# Altium schematic symbol library kmilo17pet-PIC32MX.SchLib: 556 symbols (part 11 of 38)
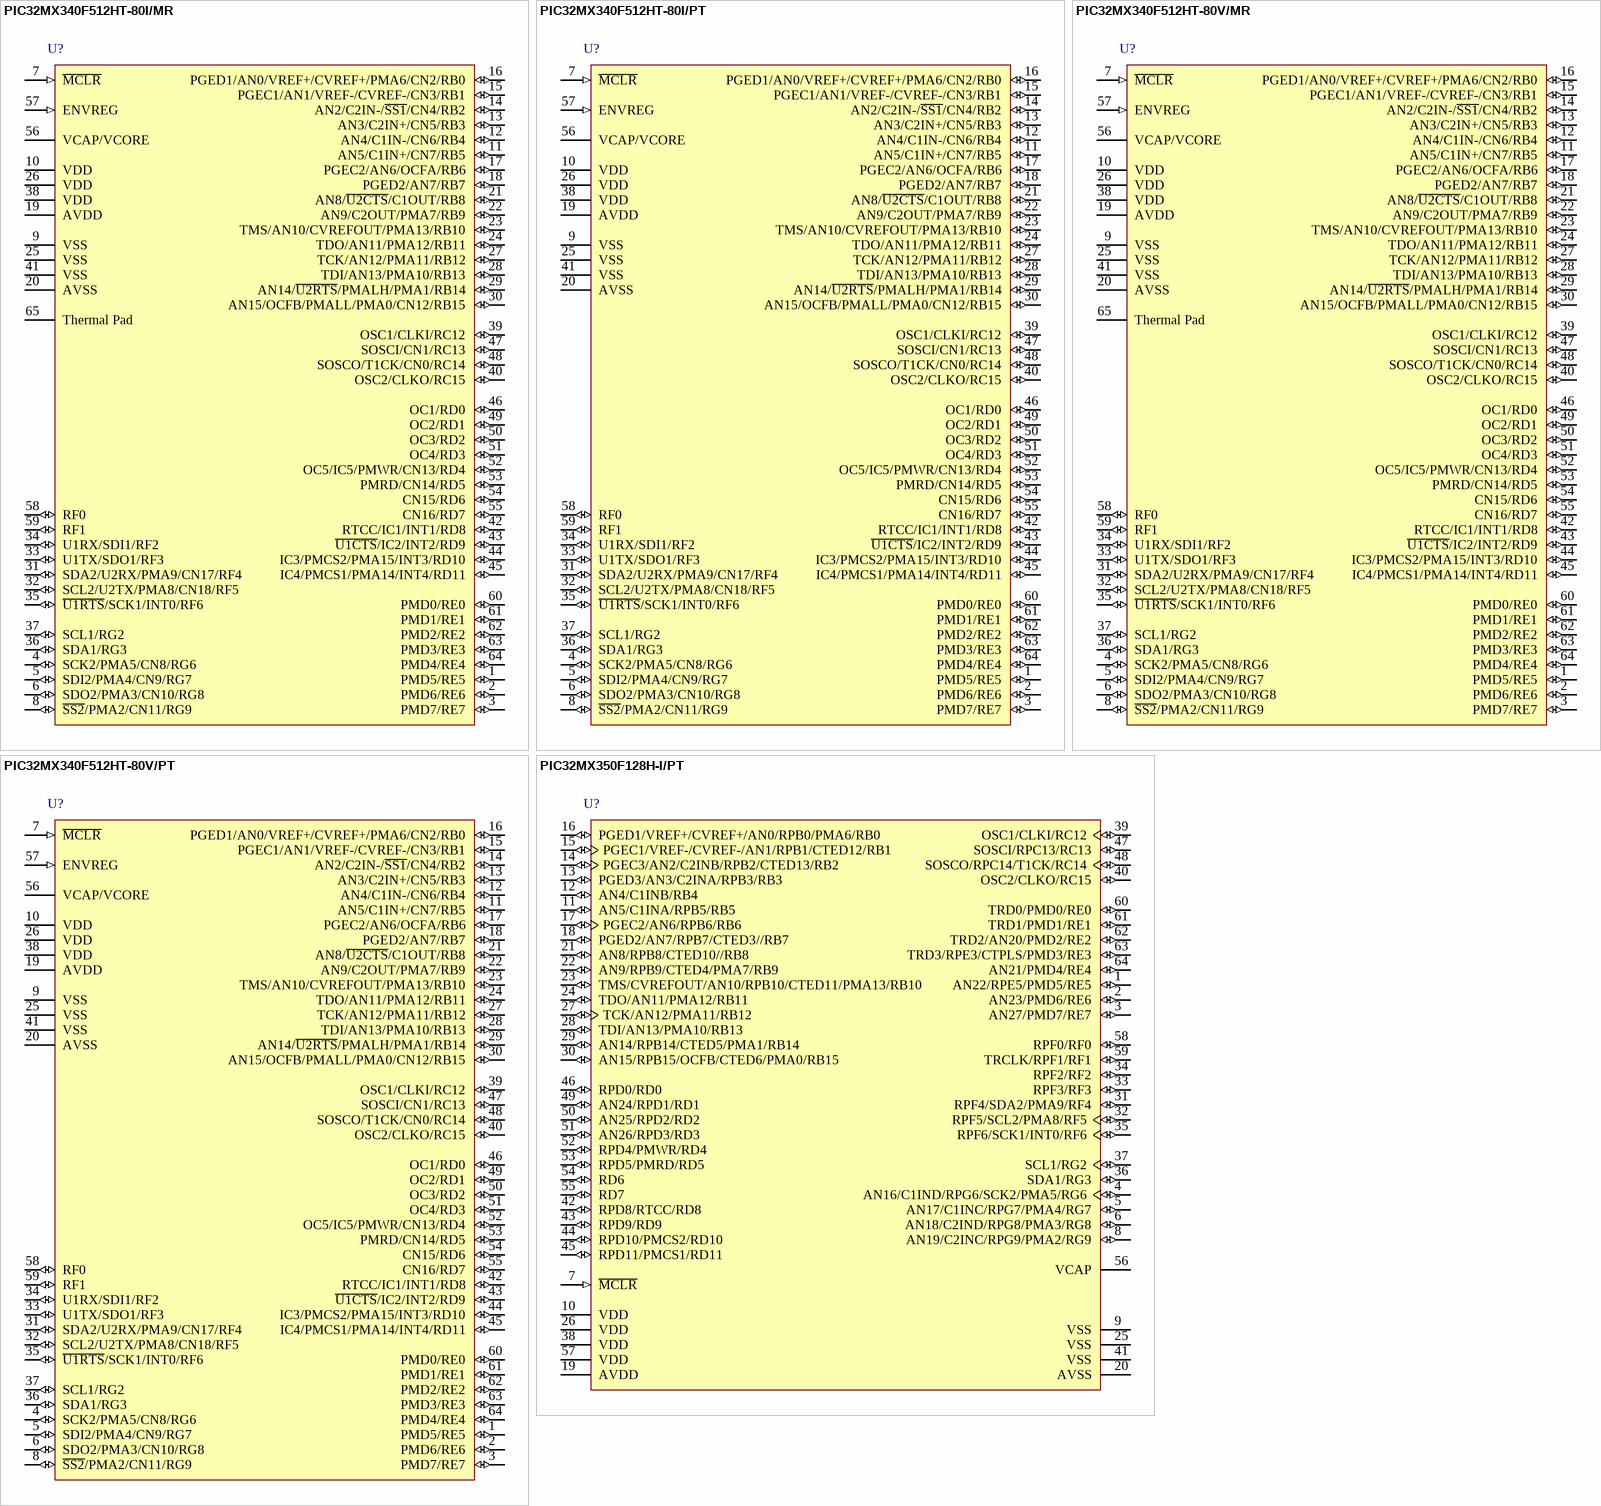
[diagram p202: symbols PIC32MX340F512HT-80I/MR to PIC32MX350F128H-I/PT]

## PIC32MX340F512HT-80V/MR
designator U?
High Performance 80 MHz MIPS-Based 32-Bit Flash Microcontroller, 512KB Program Memory, 64-pin QFN, V-Temperature, Tape and Reel; Manufacturer: Microchip; PartNumber: PIC32MX340F512HT-80V/MR; DatasheetVersion: revH, May-2011; PackageVersion: revBB, Aug-2009; PackageReference: QFN-MR64; PackageDescription: 64-Lead Plastic Quad Flat, No Lead Package (MR) - 9x9x0.9 mm Body [QFN]; Supplier 1: Digi-Key; Supplier Part Number 1: PIC32MX340F512HT-80V/MR-ND; Mounting Technology: Surface Mount; ComponentLink1Description: Manufacturer URL; ComponentLink1URL: http://www.microchip.com/; ComponentLink2Description: Datasheet; ComponentLink2URL: http://ww1.microchip.com/downloads/en/DeviceDoc/61143H.pdf; ComponentLink3Description: Package Specification; ComponentLink3URL: http://ww1.microchip.com/downloads/en/PackagingSpec/en012702.pdf
footprint QFN-MR64_N (QFN, 64-Leads, Body 9x9mm, Pitch 0.5mm, Thermal Pad 7.5x7.5mm, IPC Medium Density)
footprint QFN-MR64_L (QFN, 64-Leads, Body 9x9mm, Pitch 0.5mm, Thermal Pad 7.5x7.5mm, IPC High Density)
footprint QFN-MR64_M (QFN, 64-Leads, Body 9x9mm, Pitch 0.5mm, Thermal Pad 7.5x7.5mm, IPC Low Density)
pins: 1 PMD5/RE5 (io), 2 PMD6/RE6 (io), 3 PMD7/RE7 (io), 4 SCK2/PMA5/CN8/RG6 (io), 5 SDI2/PMA4/CN9/RG7 (io), 6 SDO2/PMA3/CN10/RG8 (io), 7 ~{MCLR} (in), 8 ~{SS2}/PMA2/CN11/RG9 (io), 9 VSS (power), 10 VDD (power), 11 AN5/C1IN+/CN7/RB5 (io), 12 AN4/C1IN-/CN6/RB4 (io), 13 AN3/C2IN+/CN5/RB3 (io), 14 AN2/C2IN-/~{SS1}/CN4/RB2 (io), 15 PGEC1/AN1/VREF-/CVREF-/CN3/RB1 (io), 16 PGED1/AN0/VREF+/CVREF+/PMA6/CN2/RB0 (io), 17 PGEC2/AN6/OCFA/RB6 (io), 18 PGED2/AN7/RB7 (io), 19 AVDD (power), 20 AVSS (power), 21 AN8/~{U2CTS}/C1OUT/RB8 (io), 22 AN9/C2OUT/PMA7/RB9 (io), 23 TMS/AN10/CVREFOUT/PMA13/RB10 (io), 24 TDO/AN11/PMA12/RB11 (io), 25 VSS (power), 26 VDD (power), 27 TCK/AN12/PMA11/RB12 (io), 28 TDI/AN13/PMA10/RB13 (io), 29 AN14/~{U2RTS}/PMALH/PMA1/RB14 (io), 30 AN15/OCFB/PMALL/PMA0/CN12/RB15 (io), 31 SDA2/U2RX/PMA9/CN17/RF4 (io), 32 SCL2/U2TX/PMA8/CN18/RF5 (io), 33 U1TX/SDO1/RF3 (io), 34 U1RX/SDI1/RF2 (io), 35 ~{U1RTS}/SCK1/INT0/RF6 (io), 36 SDA1/RG3 (io), 37 SCL1/RG2 (io), 38 VDD (power), 39 OSC1/CLKI/RC12 (io), 40 OSC2/CLKO/RC15 (io), 41 VSS (power), 42 RTCC/IC1/INT1/RD8 (io), 43 ~{U1CTS}/IC2/INT2/RD9 (io), 44 IC3/PMCS2/PMA15/INT3/RD10 (io), 45 IC4/PMCS1/PMA14/INT4/RD11 (io), 46 OC1/RD0 (io), 47 SOSCI/CN1/RC13 (io), 48 SOSCO/T1CK/CN0/RC14 (io), 49 OC2/RD1 (io), 50 OC3/RD2 (io), 51 OC4/RD3 (io), 52 OC5/IC5/PMWR/CN13/RD4 (io), 53 PMRD/CN14/RD5 (io), 54 CN15/RD6 (io), 55 CN16/RD7 (io), 56 VCAP/VCORE (power), 57 ENVREG (in), 58 RF0 (io), 59 RF1 (io), 60 PMD0/RE0 (io), 61 PMD1/RE1 (io), 62 PMD2/RE2 (io), 63 PMD3/RE3 (io), 64 PMD4/RE4 (io), 65 Thermal Pad

## PIC32MX340F512HT-80V/PT
designator U?
High Performance 80 MHz MIPS-Based 32-Bit Flash Microcontroller, 512KB Program Memory, 64-pin TQFP, V-Temperature, Tape and Reel; Manufacturer: Microchip; PartNumber: PIC32MX340F512HT-80V/PT; DatasheetVersion: revH, May-2011; PackageVersion: revBB, Aug-2009; PackageReference: TQFP-PT64; PackageDescription: 64-Lead Thin Plastic Quad Flat Pack (PT) - 10x10x1mm Body, 2.00mm [TQFP]; Supplier 1: Digi-Key; Supplier Part Number 1: PIC32MX340F512HT-80V/PT-ND; Mounting Technology: Surface Mount; Code_JEDEC: MS-026; ComponentLink1Description: Manufacturer URL; ComponentLink1URL: http://www.microchip.com/; ComponentLink2Description: Datasheet; ComponentLink2URL: http://ww1.microchip.com/downloads/en/DeviceDoc/61143H.pdf; ComponentLink3Description: Package Specification; ComponentLink3URL: http://ww1.microchip.com/downloads/en/PackagingSpec/en012702.pdf
footprint TQFP-PT64_N (Thin QFP, 64-Leads, Body 10x10mm, Pitch 0.5mm, IPC Medium Density)
footprint TQFP-PT64_L (Thin QFP, 64-Leads, Body 10x10mm, Pitch 0.5mm, IPC High Density)
footprint TQFP-PT64_M (Thin QFP, 64-Leads, Body 10x10mm, Pitch 0.5mm, IPC Low Density)
pins: 1 PMD5/RE5 (io), 2 PMD6/RE6 (io), 3 PMD7/RE7 (io), 4 SCK2/PMA5/CN8/RG6 (io), 5 SDI2/PMA4/CN9/RG7 (io), 6 SDO2/PMA3/CN10/RG8 (io), 7 ~{MCLR} (in), 8 ~{SS2}/PMA2/CN11/RG9 (io), 9 VSS (power), 10 VDD (power), 11 AN5/C1IN+/CN7/RB5 (io), 12 AN4/C1IN-/CN6/RB4 (io), 13 AN3/C2IN+/CN5/RB3 (io), 14 AN2/C2IN-/~{SS1}/CN4/RB2 (io), 15 PGEC1/AN1/VREF-/CVREF-/CN3/RB1 (io), 16 PGED1/AN0/VREF+/CVREF+/PMA6/CN2/RB0 (io), 17 PGEC2/AN6/OCFA/RB6 (io), 18 PGED2/AN7/RB7 (io), 19 AVDD (power), 20 AVSS (power), 21 AN8/~{U2CTS}/C1OUT/RB8 (io), 22 AN9/C2OUT/PMA7/RB9 (io), 23 TMS/AN10/CVREFOUT/PMA13/RB10 (io), 24 TDO/AN11/PMA12/RB11 (io), 25 VSS (power), 26 VDD (power), 27 TCK/AN12/PMA11/RB12 (io), 28 TDI/AN13/PMA10/RB13 (io), 29 AN14/~{U2RTS}/PMALH/PMA1/RB14 (io), 30 AN15/OCFB/PMALL/PMA0/CN12/RB15 (io), 31 SDA2/U2RX/PMA9/CN17/RF4 (io), 32 SCL2/U2TX/PMA8/CN18/RF5 (io), 33 U1TX/SDO1/RF3 (io), 34 U1RX/SDI1/RF2 (io), 35 ~{U1RTS}/SCK1/INT0/RF6 (io), 36 SDA1/RG3 (io), 37 SCL1/RG2 (io), 38 VDD (power), 39 OSC1/CLKI/RC12 (io), 40 OSC2/CLKO/RC15 (io), 41 VSS (power), 42 RTCC/IC1/INT1/RD8 (io), 43 ~{U1CTS}/IC2/INT2/RD9 (io), 44 IC3/PMCS2/PMA15/INT3/RD10 (io), 45 IC4/PMCS1/PMA14/INT4/RD11 (io), 46 OC1/RD0 (io), 47 SOSCI/CN1/RC13 (io), 48 SOSCO/T1CK/CN0/RC14 (io), 49 OC2/RD1 (io), 50 OC3/RD2 (io), 51 OC4/RD3 (io), 52 OC5/IC5/PMWR/CN13/RD4 (io), 53 PMRD/CN14/RD5 (io), 54 CN15/RD6 (io), 55 CN16/RD7 (io), 56 VCAP/VCORE (power), 57 ENVREG (in), 58 RF0 (io), 59 RF1 (io), 60 PMD0/RE0 (io), 61 PMD1/RE1 (io), 62 PMD2/RE2 (io), 63 PMD3/RE3 (io), 64 PMD4/RE4 (io)

## PIC32MX350F128H-I/PT
designator U?
32-Bit Microcontrollers with Audio/Graphics/Touch (HMI), USB, and Advanced Analog, 128 KB Program Memory, 32 KB Data Memory, 53 I/O, Industrial Temperature, 64-Pin TQFP (PT64), Tray; Manufacturer: Microchip; PartNumber: PIC32MX350F128H-I/PT; VCC Range: 2.3 to 3.6 V; DatasheetVersion: Rev. C; PackageVersion: C04-085B, 12/2012; PackageReference: TQFP-PT64; PackageDescription: 64-Lead Plastic Thin Quad FlatPack, 10 x 10 mm Body, 0.5 mm Pitch; Supplier 1: Digi-Key; Supplier Part Number 1: PIC32MX350F128H-I/PT-ND; Packing: Tray; Mounting Technology: Surface Mount; ComponentLink1Description: Manufacturer URL; ComponentLink1URL: http://www.microchip.com/; ComponentLink2Description: Datasheet; ComponentLink2URL: http://ww1.microchip.com/downloads/en/DeviceDoc/60001185C.pdf; ComponentLink3Description: Package Specification; ComponentLink3URL: http://www.microchip.com/stellent/groups/techpub_sg/documents/packagingspec/en012702.pdf
footprint MCHP-TQFP-PT64_N (TQFP, 64-Leads, Body 10x10mm, Pitch 0.5mm, IPC Medium Density)
footprint MCHP-TQFP-PT64_L (TQFP, 64-Leads, Body 10x10mm, Pitch 0.5mm, IPC High Density)
footprint MCHP-TQFP-PT64_M (TQFP, 64-Leads, Body 10x10mm, Pitch 0.5mm, IPC Low Density)
pins: 1 AN22/RPE5/PMD5/RE5 (io), 2 AN23/PMD6/RE6 (io), 3 AN27/PMD7/RE7 (io), 4 AN16/C1IND/RPG6/SCK2/PMA5/RG6 (io), 5 AN17/C1INC/RPG7/PMA4/RG7 (io), 6 AN18/C2IND/RPG8/PMA3/RG8 (io), 7 ~{MCLR} (in) "Master Clear (Reset) input. This pin is an active-low Reset to the device.", 8 AN19/C2INC/RPG9/PMA2/RG9 (io), 9 VSS (power) "Ground reference for logic and I/O pins", 10 VDD (power) "Positive supply for peripheral logic and I/O pins", 11 AN5/C1INA/RPB5/RB5 (io), 12 AN4/C1INB/RB4 (io), 13 PGED3/AN3/C2INA/RPB3/RB3 (io), 14 PGEC3/AN2/C2INB/RPB2/CTED13/RB2 (io), 15 PGEC1/VREF-/CVREF-/AN1/RPB1/CTED12/RB1 (io), 16 PGED1/VREF+/CVREF+/AN0/RPB0/PMA6/RB0 (io), 17 PGEC2/AN6/RPB6/RB6 (io), 18 PGED2/AN7/RPB7/CTED3//RB7 (io), 19 AVDD (power) "Positive supply for analog modules. This pin must be connected at all times.", 20 AVSS (power) "Ground reference for analog modules", 21 AN8/RPB8/CTED10//RB8 (io), 22 AN9/RPB9/CTED4/PMA7/RB9 (io), 23 TMS/CVREFOUT/AN10/RPB10/CTED11/PMA13/RB10 (io), 24 TDO/AN11/PMA12/RB11 (io), 25 VSS (power) "Ground reference for logic and I/O pins", 26 VDD (power) "Positive supply for peripheral logic and I/O pins", 27 TCK/AN12/PMA11/RB12 (io), 28 TDI/AN13/PMA10/RB13 (io), 29 AN14/RPB14/CTED5/PMA1/RB14 (io), 30 AN15/RPB15/OCFB/CTED6/PMA0/RB15 (io), 31 RPF4/SDA2/PMA9/RF4 (io), 32 RPF5/SCL2/PMA8/RF5 (io), 33 RPF3/RF3 (io), 34 RPF2/RF2 (io), 35 RPF6/SCK1/INT0/RF6 (io), 36 SDA1/RG3 (io), 37 SCL1/RG2 (io), 38 VDD (power) "Positive supply for peripheral logic and I/O pins", 39 OSC1/CLKI/RC12 (io), 40 OSC2/CLKO/RC15 (io), 41 VSS (power) "Ground reference for logic and I/O pins", 42 RPD8/RTCC/RD8 (io), 43 RPD9/RD9 (io), 44 RPD10/PMCS2/RD10 (io), 45 RPD11/PMCS1/RD11 (io), 46 RPD0/RD0 (io), 47 SOSCI/RPC13/RC13 (io), 48 SOSCO/RPC14/T1CK/RC14 (io), 49 AN24/RPD1/RD1 (io), 50 AN25/RPD2/RD2 (io), 51 AN26/RPD3/RD3 (io), 52 RPD4/PMWR/RD4 (io), 53 RPD5/PMRD/RD5 (io), 54 RD6 (io) "PORTD is a bidirectional I/O port", 55 RD7 (io) "PORTD is a bidirectional I/O port", 56 VCAP "Capacitor for Internal Voltage Regulator", 57 VDD (power) "Positive supply for peripheral logic and I/O pins", 58 RPF0/RF0 (io), 59 TRCLK/RPF1/RF1 (io), 60 TRD0/PMD0/RE0 (io), 61 TRD1/PMD1/RE1 (io), 62 TRD2/AN20/PMD2/RE2 (io), 63 TRD3/RPE3/CTPLS/PMD3/RE3 (io), 64 AN21/PMD4/RE4 (io)

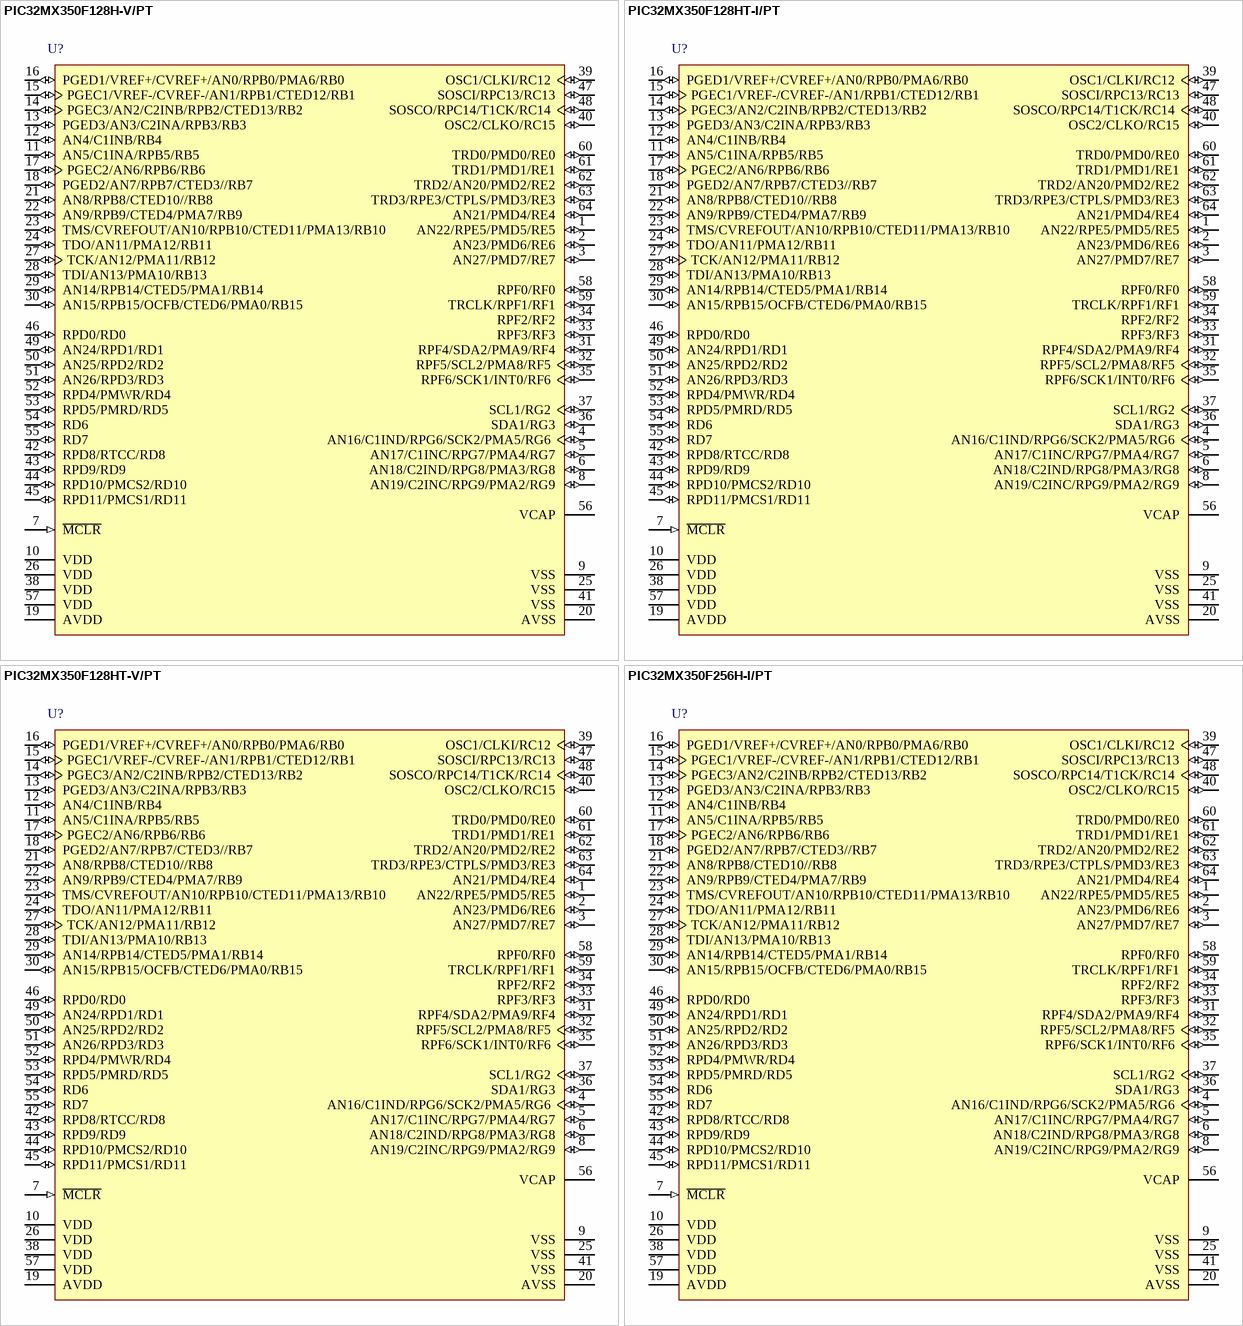
[diagram p42: symbols PIC32MX350F128H-V/PT to PIC32MX350F256H-I/PT]

## PIC32MX350F128H-V/PT
designator U?
32-Bit Microcontrollers with Audio/Graphics/Touch (HMI), USB, and Advanced Analog, 128 KB Program Memory, 32 KB Data Memory, 53 I/O, V-Temp, 64-Pin TQFP (PT64), Tray; Manufacturer: Microchip; PartNumber: PIC32MX350F128H-V/PT; VCC Range: 2.3 to 3.6 V; DatasheetVersion: Rev. C; PackageVersion: C04-085B, 12/2012; PackageReference: TQFP-PT64; PackageDescription: 64-Lead Plastic Thin Quad FlatPack, 10 x 10 mm Body, 0.5 mm Pitch; Supplier 1: Digi-Key; Supplier Part Number 1: PIC32MX350F128H-V/PT-ND; Packing: Tray; Mounting Technology: Surface Mount; ComponentLink1Description: Manufacturer URL; ComponentLink1URL: http://www.microchip.com/; ComponentLink2Description: Datasheet; ComponentLink2URL: http://ww1.microchip.com/downloads/en/DeviceDoc/60001185C.pdf; ComponentLink3Description: Package Specification; ComponentLink3URL: http://www.microchip.com/stellent/groups/techpub_sg/documents/packagingspec/en012702.pdf
footprint MCHP-TQFP-PT64_N (TQFP, 64-Leads, Body 10x10mm, Pitch 0.5mm, IPC Medium Density)
footprint MCHP-TQFP-PT64_L (TQFP, 64-Leads, Body 10x10mm, Pitch 0.5mm, IPC High Density)
footprint MCHP-TQFP-PT64_M (TQFP, 64-Leads, Body 10x10mm, Pitch 0.5mm, IPC Low Density)
pins: 1 AN22/RPE5/PMD5/RE5 (io), 2 AN23/PMD6/RE6 (io), 3 AN27/PMD7/RE7 (io), 4 AN16/C1IND/RPG6/SCK2/PMA5/RG6 (io), 5 AN17/C1INC/RPG7/PMA4/RG7 (io), 6 AN18/C2IND/RPG8/PMA3/RG8 (io), 7 ~{MCLR} (in) "Master Clear (Reset) input. This pin is an active-low Reset to the device.", 8 AN19/C2INC/RPG9/PMA2/RG9 (io), 9 VSS (power) "Ground reference for logic and I/O pins", 10 VDD (power) "Positive supply for peripheral logic and I/O pins", 11 AN5/C1INA/RPB5/RB5 (io), 12 AN4/C1INB/RB4 (io), 13 PGED3/AN3/C2INA/RPB3/RB3 (io), 14 PGEC3/AN2/C2INB/RPB2/CTED13/RB2 (io), 15 PGEC1/VREF-/CVREF-/AN1/RPB1/CTED12/RB1 (io), 16 PGED1/VREF+/CVREF+/AN0/RPB0/PMA6/RB0 (io), 17 PGEC2/AN6/RPB6/RB6 (io), 18 PGED2/AN7/RPB7/CTED3//RB7 (io), 19 AVDD (power) "Positive supply for analog modules. This pin must be connected at all times.", 20 AVSS (power) "Ground reference for analog modules", 21 AN8/RPB8/CTED10//RB8 (io), 22 AN9/RPB9/CTED4/PMA7/RB9 (io), 23 TMS/CVREFOUT/AN10/RPB10/CTED11/PMA13/RB10 (io), 24 TDO/AN11/PMA12/RB11 (io), 25 VSS (power) "Ground reference for logic and I/O pins", 26 VDD (power) "Positive supply for peripheral logic and I/O pins", 27 TCK/AN12/PMA11/RB12 (io), 28 TDI/AN13/PMA10/RB13 (io), 29 AN14/RPB14/CTED5/PMA1/RB14 (io), 30 AN15/RPB15/OCFB/CTED6/PMA0/RB15 (io), 31 RPF4/SDA2/PMA9/RF4 (io), 32 RPF5/SCL2/PMA8/RF5 (io), 33 RPF3/RF3 (io), 34 RPF2/RF2 (io), 35 RPF6/SCK1/INT0/RF6 (io), 36 SDA1/RG3 (io), 37 SCL1/RG2 (io), 38 VDD (power) "Positive supply for peripheral logic and I/O pins", 39 OSC1/CLKI/RC12 (io), 40 OSC2/CLKO/RC15 (io), 41 VSS (power) "Ground reference for logic and I/O pins", 42 RPD8/RTCC/RD8 (io), 43 RPD9/RD9 (io), 44 RPD10/PMCS2/RD10 (io), 45 RPD11/PMCS1/RD11 (io), 46 RPD0/RD0 (io), 47 SOSCI/RPC13/RC13 (io), 48 SOSCO/RPC14/T1CK/RC14 (io), 49 AN24/RPD1/RD1 (io), 50 AN25/RPD2/RD2 (io), 51 AN26/RPD3/RD3 (io), 52 RPD4/PMWR/RD4 (io), 53 RPD5/PMRD/RD5 (io), 54 RD6 (io) "PORTD is a bidirectional I/O port", 55 RD7 (io) "PORTD is a bidirectional I/O port", 56 VCAP "Capacitor for Internal Voltage Regulator", 57 VDD (power) "Positive supply for peripheral logic and I/O pins", 58 RPF0/RF0 (io), 59 TRCLK/RPF1/RF1 (io), 60 TRD0/PMD0/RE0 (io), 61 TRD1/PMD1/RE1 (io), 62 TRD2/AN20/PMD2/RE2 (io), 63 TRD3/RPE3/CTPLS/PMD3/RE3 (io), 64 AN21/PMD4/RE4 (io)

## PIC32MX350F128HT-I/PT
designator U?
32-Bit Microcontrollers with Audio/Graphics/Touch (HMI), USB, and Advanced Analog, 128 KB Program Memory, 32 KB Data Memory, 53 I/O, Industrial Temperature, 64-Pin TQFP (PT64), Tape and Reel; Manufacturer: Microchip; PartNumber: PIC32MX350F128HT-I/PT; VCC Range: 2.3 to 3.6 V; DatasheetVersion: Rev. C; PackageVersion: C04-085B, 12/2012; PackageReference: TQFP-PT64; PackageDescription: 64-Lead Plastic Thin Quad FlatPack, 10 x 10 mm Body, 0.5 mm Pitch; Supplier 1: Digi-Key; Supplier Part Number 1: PIC32MX350F128HT-I/PT-ND; Packing: Tape and Reel; Mounting Technology: Surface Mount; ComponentLink1Description: Manufacturer URL; ComponentLink1URL: http://www.microchip.com/; ComponentLink2Description: Datasheet; ComponentLink2URL: http://ww1.microchip.com/downloads/en/DeviceDoc/60001185C.pdf; ComponentLink3Description: Package Specification; ComponentLink3URL: http://www.microchip.com/stellent/groups/techpub_sg/documents/packagingspec/en012702.pdf
footprint MCHP-TQFP-PT64_N (TQFP, 64-Leads, Body 10x10mm, Pitch 0.5mm, IPC Medium Density)
footprint MCHP-TQFP-PT64_L (TQFP, 64-Leads, Body 10x10mm, Pitch 0.5mm, IPC High Density)
footprint MCHP-TQFP-PT64_M (TQFP, 64-Leads, Body 10x10mm, Pitch 0.5mm, IPC Low Density)
pins: 1 AN22/RPE5/PMD5/RE5 (io), 2 AN23/PMD6/RE6 (io), 3 AN27/PMD7/RE7 (io), 4 AN16/C1IND/RPG6/SCK2/PMA5/RG6 (io), 5 AN17/C1INC/RPG7/PMA4/RG7 (io), 6 AN18/C2IND/RPG8/PMA3/RG8 (io), 7 ~{MCLR} (in) "Master Clear (Reset) input. This pin is an active-low Reset to the device.", 8 AN19/C2INC/RPG9/PMA2/RG9 (io), 9 VSS (power) "Ground reference for logic and I/O pins", 10 VDD (power) "Positive supply for peripheral logic and I/O pins", 11 AN5/C1INA/RPB5/RB5 (io), 12 AN4/C1INB/RB4 (io), 13 PGED3/AN3/C2INA/RPB3/RB3 (io), 14 PGEC3/AN2/C2INB/RPB2/CTED13/RB2 (io), 15 PGEC1/VREF-/CVREF-/AN1/RPB1/CTED12/RB1 (io), 16 PGED1/VREF+/CVREF+/AN0/RPB0/PMA6/RB0 (io), 17 PGEC2/AN6/RPB6/RB6 (io), 18 PGED2/AN7/RPB7/CTED3//RB7 (io), 19 AVDD (power) "Positive supply for analog modules. This pin must be connected at all times.", 20 AVSS (power) "Ground reference for analog modules", 21 AN8/RPB8/CTED10//RB8 (io), 22 AN9/RPB9/CTED4/PMA7/RB9 (io), 23 TMS/CVREFOUT/AN10/RPB10/CTED11/PMA13/RB10 (io), 24 TDO/AN11/PMA12/RB11 (io), 25 VSS (power) "Ground reference for logic and I/O pins", 26 VDD (power) "Positive supply for peripheral logic and I/O pins", 27 TCK/AN12/PMA11/RB12 (io), 28 TDI/AN13/PMA10/RB13 (io), 29 AN14/RPB14/CTED5/PMA1/RB14 (io), 30 AN15/RPB15/OCFB/CTED6/PMA0/RB15 (io), 31 RPF4/SDA2/PMA9/RF4 (io), 32 RPF5/SCL2/PMA8/RF5 (io), 33 RPF3/RF3 (io), 34 RPF2/RF2 (io), 35 RPF6/SCK1/INT0/RF6 (io), 36 SDA1/RG3 (io), 37 SCL1/RG2 (io), 38 VDD (power) "Positive supply for peripheral logic and I/O pins", 39 OSC1/CLKI/RC12 (io), 40 OSC2/CLKO/RC15 (io), 41 VSS (power) "Ground reference for logic and I/O pins", 42 RPD8/RTCC/RD8 (io), 43 RPD9/RD9 (io), 44 RPD10/PMCS2/RD10 (io), 45 RPD11/PMCS1/RD11 (io), 46 RPD0/RD0 (io), 47 SOSCI/RPC13/RC13 (io), 48 SOSCO/RPC14/T1CK/RC14 (io), 49 AN24/RPD1/RD1 (io), 50 AN25/RPD2/RD2 (io), 51 AN26/RPD3/RD3 (io), 52 RPD4/PMWR/RD4 (io), 53 RPD5/PMRD/RD5 (io), 54 RD6 (io) "PORTD is a bidirectional I/O port", 55 RD7 (io) "PORTD is a bidirectional I/O port", 56 VCAP "Capacitor for Internal Voltage Regulator", 57 VDD (power) "Positive supply for peripheral logic and I/O pins", 58 RPF0/RF0 (io), 59 TRCLK/RPF1/RF1 (io), 60 TRD0/PMD0/RE0 (io), 61 TRD1/PMD1/RE1 (io), 62 TRD2/AN20/PMD2/RE2 (io), 63 TRD3/RPE3/CTPLS/PMD3/RE3 (io), 64 AN21/PMD4/RE4 (io)

## PIC32MX350F128HT-V/PT
designator U?
32-Bit Microcontrollers with Audio/Graphics/Touch (HMI), USB, and Advanced Analog, 128 KB Program Memory, 32 KB Data Memory, 53 I/O, V-Temp, 64-Pin TQFP (PT64), Tape and Reel; Manufacturer: Microchip; PartNumber: PIC32MX350F128HT-V/PT; VCC Range: 2.3 to 3.6 V; DatasheetVersion: Rev. C; PackageVersion: C04-085B, 12/2012; PackageReference: TQFP-PT64; PackageDescription: 64-Lead Plastic Thin Quad FlatPack, 10 x 10 mm Body, 0.5 mm Pitch; Supplier 1: Digi-Key; Supplier Part Number 1: PIC32MX350F128HT-V/PT-ND; Packing: Tape and Reel; Mounting Technology: Surface Mount; ComponentLink1Description: Manufacturer URL; ComponentLink1URL: http://www.microchip.com/; ComponentLink2Description: Datasheet; ComponentLink2URL: http://ww1.microchip.com/downloads/en/DeviceDoc/60001185C.pdf; ComponentLink3Description: Package Specification; ComponentLink3URL: http://www.microchip.com/stellent/groups/techpub_sg/documents/packagingspec/en012702.pdf
footprint MCHP-TQFP-PT64_N (TQFP, 64-Leads, Body 10x10mm, Pitch 0.5mm, IPC Medium Density)
footprint MCHP-TQFP-PT64_L (TQFP, 64-Leads, Body 10x10mm, Pitch 0.5mm, IPC High Density)
footprint MCHP-TQFP-PT64_M (TQFP, 64-Leads, Body 10x10mm, Pitch 0.5mm, IPC Low Density)
pins: 1 AN22/RPE5/PMD5/RE5 (io), 2 AN23/PMD6/RE6 (io), 3 AN27/PMD7/RE7 (io), 4 AN16/C1IND/RPG6/SCK2/PMA5/RG6 (io), 5 AN17/C1INC/RPG7/PMA4/RG7 (io), 6 AN18/C2IND/RPG8/PMA3/RG8 (io), 7 ~{MCLR} (in) "Master Clear (Reset) input. This pin is an active-low Reset to the device.", 8 AN19/C2INC/RPG9/PMA2/RG9 (io), 9 VSS (power) "Ground reference for logic and I/O pins", 10 VDD (power) "Positive supply for peripheral logic and I/O pins", 11 AN5/C1INA/RPB5/RB5 (io), 12 AN4/C1INB/RB4 (io), 13 PGED3/AN3/C2INA/RPB3/RB3 (io), 14 PGEC3/AN2/C2INB/RPB2/CTED13/RB2 (io), 15 PGEC1/VREF-/CVREF-/AN1/RPB1/CTED12/RB1 (io), 16 PGED1/VREF+/CVREF+/AN0/RPB0/PMA6/RB0 (io), 17 PGEC2/AN6/RPB6/RB6 (io), 18 PGED2/AN7/RPB7/CTED3//RB7 (io), 19 AVDD (power) "Positive supply for analog modules. This pin must be connected at all times.", 20 AVSS (power) "Ground reference for analog modules", 21 AN8/RPB8/CTED10//RB8 (io), 22 AN9/RPB9/CTED4/PMA7/RB9 (io), 23 TMS/CVREFOUT/AN10/RPB10/CTED11/PMA13/RB10 (io), 24 TDO/AN11/PMA12/RB11 (io), 25 VSS (power) "Ground reference for logic and I/O pins", 26 VDD (power) "Positive supply for peripheral logic and I/O pins", 27 TCK/AN12/PMA11/RB12 (io), 28 TDI/AN13/PMA10/RB13 (io), 29 AN14/RPB14/CTED5/PMA1/RB14 (io), 30 AN15/RPB15/OCFB/CTED6/PMA0/RB15 (io), 31 RPF4/SDA2/PMA9/RF4 (io), 32 RPF5/SCL2/PMA8/RF5 (io), 33 RPF3/RF3 (io), 34 RPF2/RF2 (io), 35 RPF6/SCK1/INT0/RF6 (io), 36 SDA1/RG3 (io), 37 SCL1/RG2 (io), 38 VDD (power) "Positive supply for peripheral logic and I/O pins", 39 OSC1/CLKI/RC12 (io), 40 OSC2/CLKO/RC15 (io), 41 VSS (power) "Ground reference for logic and I/O pins", 42 RPD8/RTCC/RD8 (io), 43 RPD9/RD9 (io), 44 RPD10/PMCS2/RD10 (io), 45 RPD11/PMCS1/RD11 (io), 46 RPD0/RD0 (io), 47 SOSCI/RPC13/RC13 (io), 48 SOSCO/RPC14/T1CK/RC14 (io), 49 AN24/RPD1/RD1 (io), 50 AN25/RPD2/RD2 (io), 51 AN26/RPD3/RD3 (io), 52 RPD4/PMWR/RD4 (io), 53 RPD5/PMRD/RD5 (io), 54 RD6 (io) "PORTD is a bidirectional I/O port", 55 RD7 (io) "PORTD is a bidirectional I/O port", 56 VCAP "Capacitor for Internal Voltage Regulator", 57 VDD (power) "Positive supply for peripheral logic and I/O pins", 58 RPF0/RF0 (io), 59 TRCLK/RPF1/RF1 (io), 60 TRD0/PMD0/RE0 (io), 61 TRD1/PMD1/RE1 (io), 62 TRD2/AN20/PMD2/RE2 (io), 63 TRD3/RPE3/CTPLS/PMD3/RE3 (io), 64 AN21/PMD4/RE4 (io)

## PIC32MX350F256H-I/PT
designator U?
32-Bit Microcontrollers with Audio/Graphics/Touch (HMI), USB, and Advanced Analog, 256 KB Program Memory, 64 KB Data Memory, 53 I/O, Industrial Temperature, 64-Pin TQFP (PT64), Tray; Manufacturer: Microchip; PartNumber: PIC32MX350F256H-I/PT; VCC Range: 2.3 to 3.6 V; DatasheetVersion: Rev. C; PackageVersion: C04-085B, 12/2012; PackageReference: TQFP-PT64; PackageDescription: 64-Lead Plastic Thin Quad FlatPack, 10 x 10 mm Body, 0.5 mm Pitch; Supplier 1: Digi-Key; Supplier Part Number 1: PIC32MX350F256H-I/PT-ND; Packing: Tray; Mounting Technology: Surface Mount; ComponentLink1Description: Manufacturer URL; ComponentLink1URL: http://www.microchip.com/; ComponentLink2Description: Datasheet; ComponentLink2URL: http://ww1.microchip.com/downloads/en/DeviceDoc/60001185C.pdf; ComponentLink3Description: Package Specification; ComponentLink3URL: http://www.microchip.com/stellent/groups/techpub_sg/documents/packagingspec/en012702.pdf
footprint MCHP-TQFP-PT64_N (TQFP, 64-Leads, Body 10x10mm, Pitch 0.5mm, IPC Medium Density)
footprint MCHP-TQFP-PT64_L (TQFP, 64-Leads, Body 10x10mm, Pitch 0.5mm, IPC High Density)
footprint MCHP-TQFP-PT64_M (TQFP, 64-Leads, Body 10x10mm, Pitch 0.5mm, IPC Low Density)
pins: 1 AN22/RPE5/PMD5/RE5 (io), 2 AN23/PMD6/RE6 (io), 3 AN27/PMD7/RE7 (io), 4 AN16/C1IND/RPG6/SCK2/PMA5/RG6 (io), 5 AN17/C1INC/RPG7/PMA4/RG7 (io), 6 AN18/C2IND/RPG8/PMA3/RG8 (io), 7 ~{MCLR} (in) "Master Clear (Reset) input. This pin is an active-low Reset to the device.", 8 AN19/C2INC/RPG9/PMA2/RG9 (io), 9 VSS (power) "Ground reference for logic and I/O pins", 10 VDD (power) "Positive supply for peripheral logic and I/O pins", 11 AN5/C1INA/RPB5/RB5 (io), 12 AN4/C1INB/RB4 (io), 13 PGED3/AN3/C2INA/RPB3/RB3 (io), 14 PGEC3/AN2/C2INB/RPB2/CTED13/RB2 (io), 15 PGEC1/VREF-/CVREF-/AN1/RPB1/CTED12/RB1 (io), 16 PGED1/VREF+/CVREF+/AN0/RPB0/PMA6/RB0 (io), 17 PGEC2/AN6/RPB6/RB6 (io), 18 PGED2/AN7/RPB7/CTED3//RB7 (io), 19 AVDD (power) "Positive supply for analog modules. This pin must be connected at all times.", 20 AVSS (power) "Ground reference for analog modules", 21 AN8/RPB8/CTED10//RB8 (io), 22 AN9/RPB9/CTED4/PMA7/RB9 (io), 23 TMS/CVREFOUT/AN10/RPB10/CTED11/PMA13/RB10 (io), 24 TDO/AN11/PMA12/RB11 (io), 25 VSS (power) "Ground reference for logic and I/O pins", 26 VDD (power) "Positive supply for peripheral logic and I/O pins", 27 TCK/AN12/PMA11/RB12 (io), 28 TDI/AN13/PMA10/RB13 (io), 29 AN14/RPB14/CTED5/PMA1/RB14 (io), 30 AN15/RPB15/OCFB/CTED6/PMA0/RB15 (io), 31 RPF4/SDA2/PMA9/RF4 (io), 32 RPF5/SCL2/PMA8/RF5 (io), 33 RPF3/RF3 (io), 34 RPF2/RF2 (io), 35 RPF6/SCK1/INT0/RF6 (io), 36 SDA1/RG3 (io), 37 SCL1/RG2 (io), 38 VDD (power) "Positive supply for peripheral logic and I/O pins", 39 OSC1/CLKI/RC12 (io), 40 OSC2/CLKO/RC15 (io), 41 VSS (power) "Ground reference for logic and I/O pins", 42 RPD8/RTCC/RD8 (io), 43 RPD9/RD9 (io), 44 RPD10/PMCS2/RD10 (io), 45 RPD11/PMCS1/RD11 (io), 46 RPD0/RD0 (io), 47 SOSCI/RPC13/RC13 (io), 48 SOSCO/RPC14/T1CK/RC14 (io), 49 AN24/RPD1/RD1 (io), 50 AN25/RPD2/RD2 (io), 51 AN26/RPD3/RD3 (io), 52 RPD4/PMWR/RD4 (io), 53 RPD5/PMRD/RD5 (io), 54 RD6 (io) "PORTD is a bidirectional I/O port", 55 RD7 (io) "PORTD is a bidirectional I/O port", 56 VCAP "Capacitor for Internal Voltage Regulator", 57 VDD (power) "Positive supply for peripheral logic and I/O pins", 58 RPF0/RF0 (io), 59 TRCLK/RPF1/RF1 (io), 60 TRD0/PMD0/RE0 (io), 61 TRD1/PMD1/RE1 (io), 62 TRD2/AN20/PMD2/RE2 (io), 63 TRD3/RPE3/CTPLS/PMD3/RE3 (io), 64 AN21/PMD4/RE4 (io)

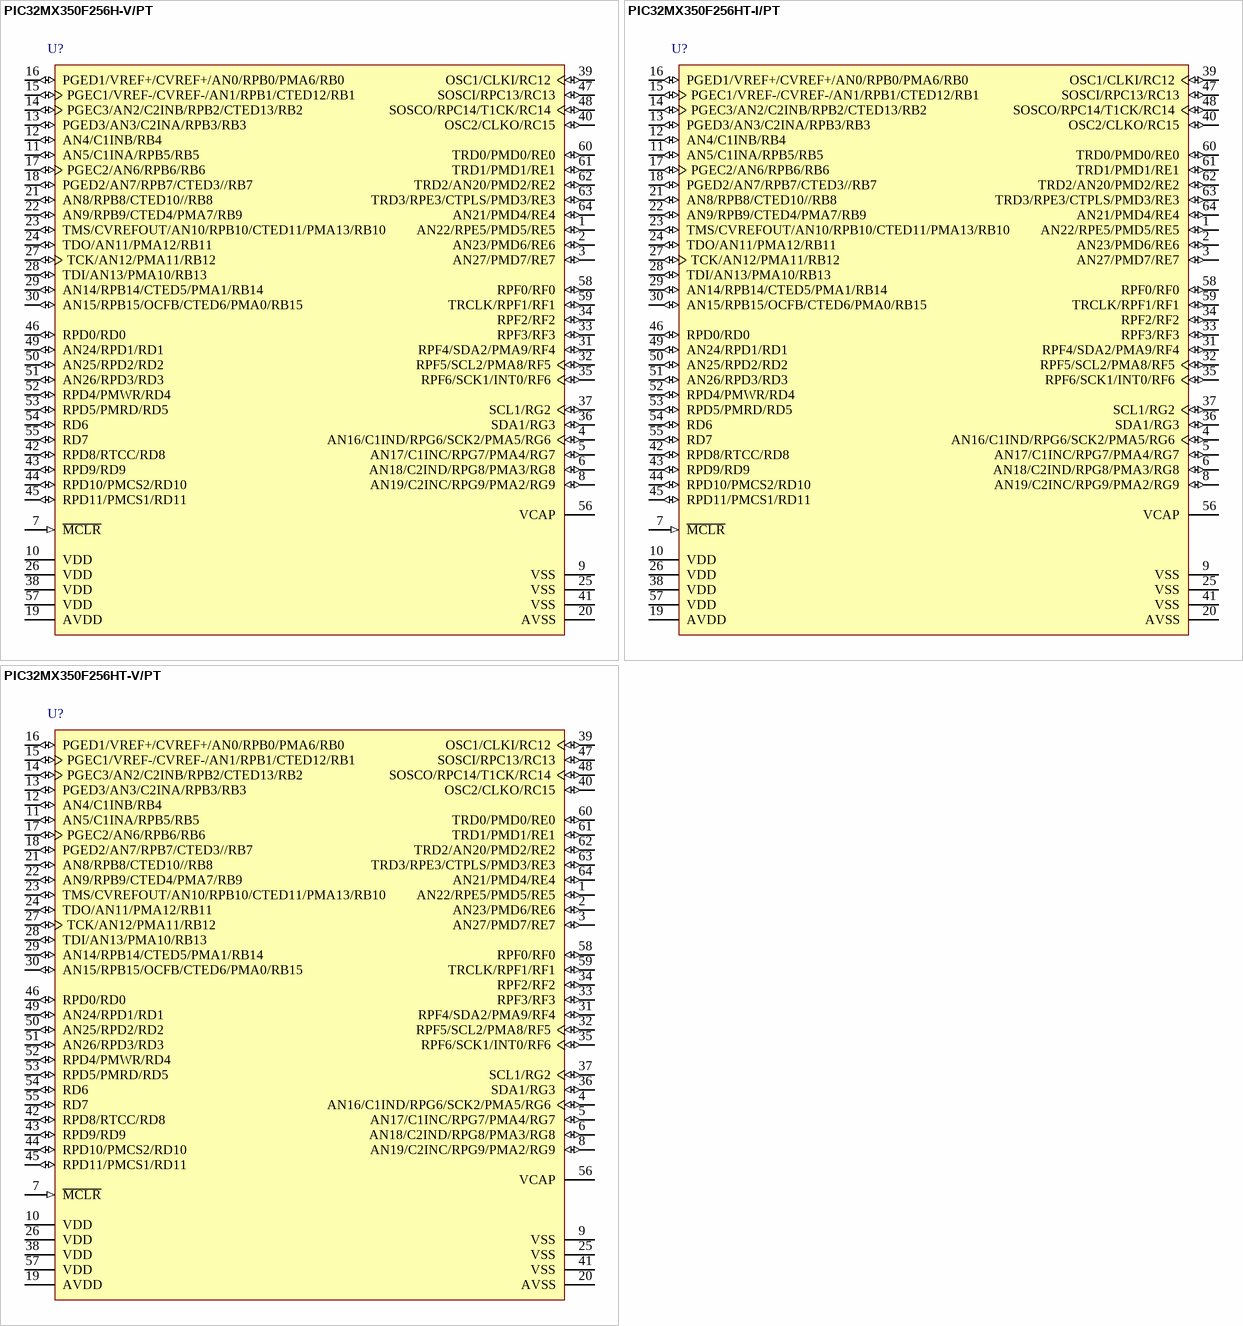
[diagram p43: symbols PIC32MX350F256H-V/PT to PIC32MX350F256HT-V/PT]

## PIC32MX350F256H-V/PT
designator U?
32-Bit Microcontrollers with Audio/Graphics/Touch (HMI), USB, and Advanced Analog, 256 KB Program Memory, 64 KB Data Memory, 53 I/O, V-Temp, 64-Pin TQFP (PT64), Tray; Manufacturer: Microchip; PartNumber: PIC32MX350F256H-V/PT; VCC Range: 2.3 to 3.6 V; DatasheetVersion: Rev. C; PackageVersion: C04-085B, 12/2012; PackageReference: TQFP-PT64; PackageDescription: 64-Lead Plastic Thin Quad FlatPack, 10 x 10 mm Body, 0.5 mm Pitch; Supplier 1: Digi-Key; Supplier Part Number 1: PIC32MX350F256H-V/PT-ND; Packing: Tray; Mounting Technology: Surface Mount; ComponentLink1Description: Manufacturer URL; ComponentLink1URL: http://www.microchip.com/; ComponentLink2Description: Datasheet; ComponentLink2URL: http://ww1.microchip.com/downloads/en/DeviceDoc/60001185C.pdf; ComponentLink3Description: Package Specification; ComponentLink3URL: http://www.microchip.com/stellent/groups/techpub_sg/documents/packagingspec/en012702.pdf
footprint MCHP-TQFP-PT64_N (TQFP, 64-Leads, Body 10x10mm, Pitch 0.5mm, IPC Medium Density)
footprint MCHP-TQFP-PT64_L (TQFP, 64-Leads, Body 10x10mm, Pitch 0.5mm, IPC High Density)
footprint MCHP-TQFP-PT64_M (TQFP, 64-Leads, Body 10x10mm, Pitch 0.5mm, IPC Low Density)
pins: 1 AN22/RPE5/PMD5/RE5 (io), 2 AN23/PMD6/RE6 (io), 3 AN27/PMD7/RE7 (io), 4 AN16/C1IND/RPG6/SCK2/PMA5/RG6 (io), 5 AN17/C1INC/RPG7/PMA4/RG7 (io), 6 AN18/C2IND/RPG8/PMA3/RG8 (io), 7 ~{MCLR} (in) "Master Clear (Reset) input. This pin is an active-low Reset to the device.", 8 AN19/C2INC/RPG9/PMA2/RG9 (io), 9 VSS (power) "Ground reference for logic and I/O pins", 10 VDD (power) "Positive supply for peripheral logic and I/O pins", 11 AN5/C1INA/RPB5/RB5 (io), 12 AN4/C1INB/RB4 (io), 13 PGED3/AN3/C2INA/RPB3/RB3 (io), 14 PGEC3/AN2/C2INB/RPB2/CTED13/RB2 (io), 15 PGEC1/VREF-/CVREF-/AN1/RPB1/CTED12/RB1 (io), 16 PGED1/VREF+/CVREF+/AN0/RPB0/PMA6/RB0 (io), 17 PGEC2/AN6/RPB6/RB6 (io), 18 PGED2/AN7/RPB7/CTED3//RB7 (io), 19 AVDD (power) "Positive supply for analog modules. This pin must be connected at all times.", 20 AVSS (power) "Ground reference for analog modules", 21 AN8/RPB8/CTED10//RB8 (io), 22 AN9/RPB9/CTED4/PMA7/RB9 (io), 23 TMS/CVREFOUT/AN10/RPB10/CTED11/PMA13/RB10 (io), 24 TDO/AN11/PMA12/RB11 (io), 25 VSS (power) "Ground reference for logic and I/O pins", 26 VDD (power) "Positive supply for peripheral logic and I/O pins", 27 TCK/AN12/PMA11/RB12 (io), 28 TDI/AN13/PMA10/RB13 (io), 29 AN14/RPB14/CTED5/PMA1/RB14 (io), 30 AN15/RPB15/OCFB/CTED6/PMA0/RB15 (io), 31 RPF4/SDA2/PMA9/RF4 (io), 32 RPF5/SCL2/PMA8/RF5 (io), 33 RPF3/RF3 (io), 34 RPF2/RF2 (io), 35 RPF6/SCK1/INT0/RF6 (io), 36 SDA1/RG3 (io), 37 SCL1/RG2 (io), 38 VDD (power) "Positive supply for peripheral logic and I/O pins", 39 OSC1/CLKI/RC12 (io), 40 OSC2/CLKO/RC15 (io), 41 VSS (power) "Ground reference for logic and I/O pins", 42 RPD8/RTCC/RD8 (io), 43 RPD9/RD9 (io), 44 RPD10/PMCS2/RD10 (io), 45 RPD11/PMCS1/RD11 (io), 46 RPD0/RD0 (io), 47 SOSCI/RPC13/RC13 (io), 48 SOSCO/RPC14/T1CK/RC14 (io), 49 AN24/RPD1/RD1 (io), 50 AN25/RPD2/RD2 (io), 51 AN26/RPD3/RD3 (io), 52 RPD4/PMWR/RD4 (io), 53 RPD5/PMRD/RD5 (io), 54 RD6 (io) "PORTD is a bidirectional I/O port", 55 RD7 (io) "PORTD is a bidirectional I/O port", 56 VCAP "Capacitor for Internal Voltage Regulator", 57 VDD (power) "Positive supply for peripheral logic and I/O pins", 58 RPF0/RF0 (io), 59 TRCLK/RPF1/RF1 (io), 60 TRD0/PMD0/RE0 (io), 61 TRD1/PMD1/RE1 (io), 62 TRD2/AN20/PMD2/RE2 (io), 63 TRD3/RPE3/CTPLS/PMD3/RE3 (io), 64 AN21/PMD4/RE4 (io)

## PIC32MX350F256HT-I/PT
designator U?
32-Bit Microcontrollers with Audio/Graphics/Touch (HMI), USB, and Advanced Analog, 256 KB Program Memory, 64 KB Data Memory, 53 I/O, Industrial Temperature, 64-Pin TQFP (PT64), Tape and Reel; Manufacturer: Microchip; PartNumber: PIC32MX350F256HT-I/PT; VCC Range: 2.3 to 3.6 V; DatasheetVersion: Rev. C; PackageVersion: C04-085B, 12/2012; PackageReference: TQFP-PT64; PackageDescription: 64-Lead Plastic Thin Quad FlatPack, 10 x 10 mm Body, 0.5 mm Pitch; Supplier 1: Digi-Key; Supplier Part Number 1: PIC32MX350F256HT-I/PT-ND; Packing: Tape and Reel; Mounting Technology: Surface Mount; ComponentLink1Description: Manufacturer URL; ComponentLink1URL: http://www.microchip.com/; ComponentLink2Description: Datasheet; ComponentLink2URL: http://ww1.microchip.com/downloads/en/DeviceDoc/60001185C.pdf; ComponentLink3Description: Package Specification; ComponentLink3URL: http://www.microchip.com/stellent/groups/techpub_sg/documents/packagingspec/en012702.pdf
footprint MCHP-TQFP-PT64_N (TQFP, 64-Leads, Body 10x10mm, Pitch 0.5mm, IPC Medium Density)
footprint MCHP-TQFP-PT64_L (TQFP, 64-Leads, Body 10x10mm, Pitch 0.5mm, IPC High Density)
footprint MCHP-TQFP-PT64_M (TQFP, 64-Leads, Body 10x10mm, Pitch 0.5mm, IPC Low Density)
pins: 1 AN22/RPE5/PMD5/RE5 (io), 2 AN23/PMD6/RE6 (io), 3 AN27/PMD7/RE7 (io), 4 AN16/C1IND/RPG6/SCK2/PMA5/RG6 (io), 5 AN17/C1INC/RPG7/PMA4/RG7 (io), 6 AN18/C2IND/RPG8/PMA3/RG8 (io), 7 ~{MCLR} (in) "Master Clear (Reset) input. This pin is an active-low Reset to the device.", 8 AN19/C2INC/RPG9/PMA2/RG9 (io), 9 VSS (power) "Ground reference for logic and I/O pins", 10 VDD (power) "Positive supply for peripheral logic and I/O pins", 11 AN5/C1INA/RPB5/RB5 (io), 12 AN4/C1INB/RB4 (io), 13 PGED3/AN3/C2INA/RPB3/RB3 (io), 14 PGEC3/AN2/C2INB/RPB2/CTED13/RB2 (io), 15 PGEC1/VREF-/CVREF-/AN1/RPB1/CTED12/RB1 (io), 16 PGED1/VREF+/CVREF+/AN0/RPB0/PMA6/RB0 (io), 17 PGEC2/AN6/RPB6/RB6 (io), 18 PGED2/AN7/RPB7/CTED3//RB7 (io), 19 AVDD (power) "Positive supply for analog modules. This pin must be connected at all times.", 20 AVSS (power) "Ground reference for analog modules", 21 AN8/RPB8/CTED10//RB8 (io), 22 AN9/RPB9/CTED4/PMA7/RB9 (io), 23 TMS/CVREFOUT/AN10/RPB10/CTED11/PMA13/RB10 (io), 24 TDO/AN11/PMA12/RB11 (io), 25 VSS (power) "Ground reference for logic and I/O pins", 26 VDD (power) "Positive supply for peripheral logic and I/O pins", 27 TCK/AN12/PMA11/RB12 (io), 28 TDI/AN13/PMA10/RB13 (io), 29 AN14/RPB14/CTED5/PMA1/RB14 (io), 30 AN15/RPB15/OCFB/CTED6/PMA0/RB15 (io), 31 RPF4/SDA2/PMA9/RF4 (io), 32 RPF5/SCL2/PMA8/RF5 (io), 33 RPF3/RF3 (io), 34 RPF2/RF2 (io), 35 RPF6/SCK1/INT0/RF6 (io), 36 SDA1/RG3 (io), 37 SCL1/RG2 (io), 38 VDD (power) "Positive supply for peripheral logic and I/O pins", 39 OSC1/CLKI/RC12 (io), 40 OSC2/CLKO/RC15 (io), 41 VSS (power) "Ground reference for logic and I/O pins", 42 RPD8/RTCC/RD8 (io), 43 RPD9/RD9 (io), 44 RPD10/PMCS2/RD10 (io), 45 RPD11/PMCS1/RD11 (io), 46 RPD0/RD0 (io), 47 SOSCI/RPC13/RC13 (io), 48 SOSCO/RPC14/T1CK/RC14 (io), 49 AN24/RPD1/RD1 (io), 50 AN25/RPD2/RD2 (io), 51 AN26/RPD3/RD3 (io), 52 RPD4/PMWR/RD4 (io), 53 RPD5/PMRD/RD5 (io), 54 RD6 (io) "PORTD is a bidirectional I/O port", 55 RD7 (io) "PORTD is a bidirectional I/O port", 56 VCAP "Capacitor for Internal Voltage Regulator", 57 VDD (power) "Positive supply for peripheral logic and I/O pins", 58 RPF0/RF0 (io), 59 TRCLK/RPF1/RF1 (io), 60 TRD0/PMD0/RE0 (io), 61 TRD1/PMD1/RE1 (io), 62 TRD2/AN20/PMD2/RE2 (io), 63 TRD3/RPE3/CTPLS/PMD3/RE3 (io), 64 AN21/PMD4/RE4 (io)

## PIC32MX350F256HT-V/PT
designator U?
32-Bit Microcontrollers with Audio/Graphics/Touch (HMI), USB, and Advanced Analog, 256 KB Program Memory, 64 KB Data Memory, 53 I/O, V-Temp, 64-Pin TQFP (PT64), Tape and Reel; Manufacturer: Microchip; PartNumber: PIC32MX350F256HT-V/PT; VCC Range: 2.3 to 3.6 V; DatasheetVersion: Rev. C; PackageVersion: C04-085B, 12/2012; PackageReference: TQFP-PT64; PackageDescription: 64-Lead Plastic Thin Quad FlatPack, 10 x 10 mm Body, 0.5 mm Pitch; Supplier 1: Digi-Key; Supplier Part Number 1: PIC32MX350F256HT-V/PT-ND; Packing: Tape and Reel; Mounting Technology: Surface Mount; ComponentLink1Description: Manufacturer URL; ComponentLink1URL: http://www.microchip.com/; ComponentLink2Description: Datasheet; ComponentLink2URL: http://ww1.microchip.com/downloads/en/DeviceDoc/60001185C.pdf; ComponentLink3Description: Package Specification; ComponentLink3URL: http://www.microchip.com/stellent/groups/techpub_sg/documents/packagingspec/en012702.pdf
footprint MCHP-TQFP-PT64_N (TQFP, 64-Leads, Body 10x10mm, Pitch 0.5mm, IPC Medium Density)
footprint MCHP-TQFP-PT64_L (TQFP, 64-Leads, Body 10x10mm, Pitch 0.5mm, IPC High Density)
footprint MCHP-TQFP-PT64_M (TQFP, 64-Leads, Body 10x10mm, Pitch 0.5mm, IPC Low Density)
pins: 1 AN22/RPE5/PMD5/RE5 (io), 2 AN23/PMD6/RE6 (io), 3 AN27/PMD7/RE7 (io), 4 AN16/C1IND/RPG6/SCK2/PMA5/RG6 (io), 5 AN17/C1INC/RPG7/PMA4/RG7 (io), 6 AN18/C2IND/RPG8/PMA3/RG8 (io), 7 ~{MCLR} (in) "Master Clear (Reset) input. This pin is an active-low Reset to the device.", 8 AN19/C2INC/RPG9/PMA2/RG9 (io), 9 VSS (power) "Ground reference for logic and I/O pins", 10 VDD (power) "Positive supply for peripheral logic and I/O pins", 11 AN5/C1INA/RPB5/RB5 (io), 12 AN4/C1INB/RB4 (io), 13 PGED3/AN3/C2INA/RPB3/RB3 (io), 14 PGEC3/AN2/C2INB/RPB2/CTED13/RB2 (io), 15 PGEC1/VREF-/CVREF-/AN1/RPB1/CTED12/RB1 (io), 16 PGED1/VREF+/CVREF+/AN0/RPB0/PMA6/RB0 (io), 17 PGEC2/AN6/RPB6/RB6 (io), 18 PGED2/AN7/RPB7/CTED3//RB7 (io), 19 AVDD (power) "Positive supply for analog modules. This pin must be connected at all times.", 20 AVSS (power) "Ground reference for analog modules", 21 AN8/RPB8/CTED10//RB8 (io), 22 AN9/RPB9/CTED4/PMA7/RB9 (io), 23 TMS/CVREFOUT/AN10/RPB10/CTED11/PMA13/RB10 (io), 24 TDO/AN11/PMA12/RB11 (io), 25 VSS (power) "Ground reference for logic and I/O pins", 26 VDD (power) "Positive supply for peripheral logic and I/O pins", 27 TCK/AN12/PMA11/RB12 (io), 28 TDI/AN13/PMA10/RB13 (io), 29 AN14/RPB14/CTED5/PMA1/RB14 (io), 30 AN15/RPB15/OCFB/CTED6/PMA0/RB15 (io), 31 RPF4/SDA2/PMA9/RF4 (io), 32 RPF5/SCL2/PMA8/RF5 (io), 33 RPF3/RF3 (io), 34 RPF2/RF2 (io), 35 RPF6/SCK1/INT0/RF6 (io), 36 SDA1/RG3 (io), 37 SCL1/RG2 (io), 38 VDD (power) "Positive supply for peripheral logic and I/O pins", 39 OSC1/CLKI/RC12 (io), 40 OSC2/CLKO/RC15 (io), 41 VSS (power) "Ground reference for logic and I/O pins", 42 RPD8/RTCC/RD8 (io), 43 RPD9/RD9 (io), 44 RPD10/PMCS2/RD10 (io), 45 RPD11/PMCS1/RD11 (io), 46 RPD0/RD0 (io), 47 SOSCI/RPC13/RC13 (io), 48 SOSCO/RPC14/T1CK/RC14 (io), 49 AN24/RPD1/RD1 (io), 50 AN25/RPD2/RD2 (io), 51 AN26/RPD3/RD3 (io), 52 RPD4/PMWR/RD4 (io), 53 RPD5/PMRD/RD5 (io), 54 RD6 (io) "PORTD is a bidirectional I/O port", 55 RD7 (io) "PORTD is a bidirectional I/O port", 56 VCAP "Capacitor for Internal Voltage Regulator", 57 VDD (power) "Positive supply for peripheral logic and I/O pins", 58 RPF0/RF0 (io), 59 TRCLK/RPF1/RF1 (io), 60 TRD0/PMD0/RE0 (io), 61 TRD1/PMD1/RE1 (io), 62 TRD2/AN20/PMD2/RE2 (io), 63 TRD3/RPE3/CTPLS/PMD3/RE3 (io), 64 AN21/PMD4/RE4 (io)

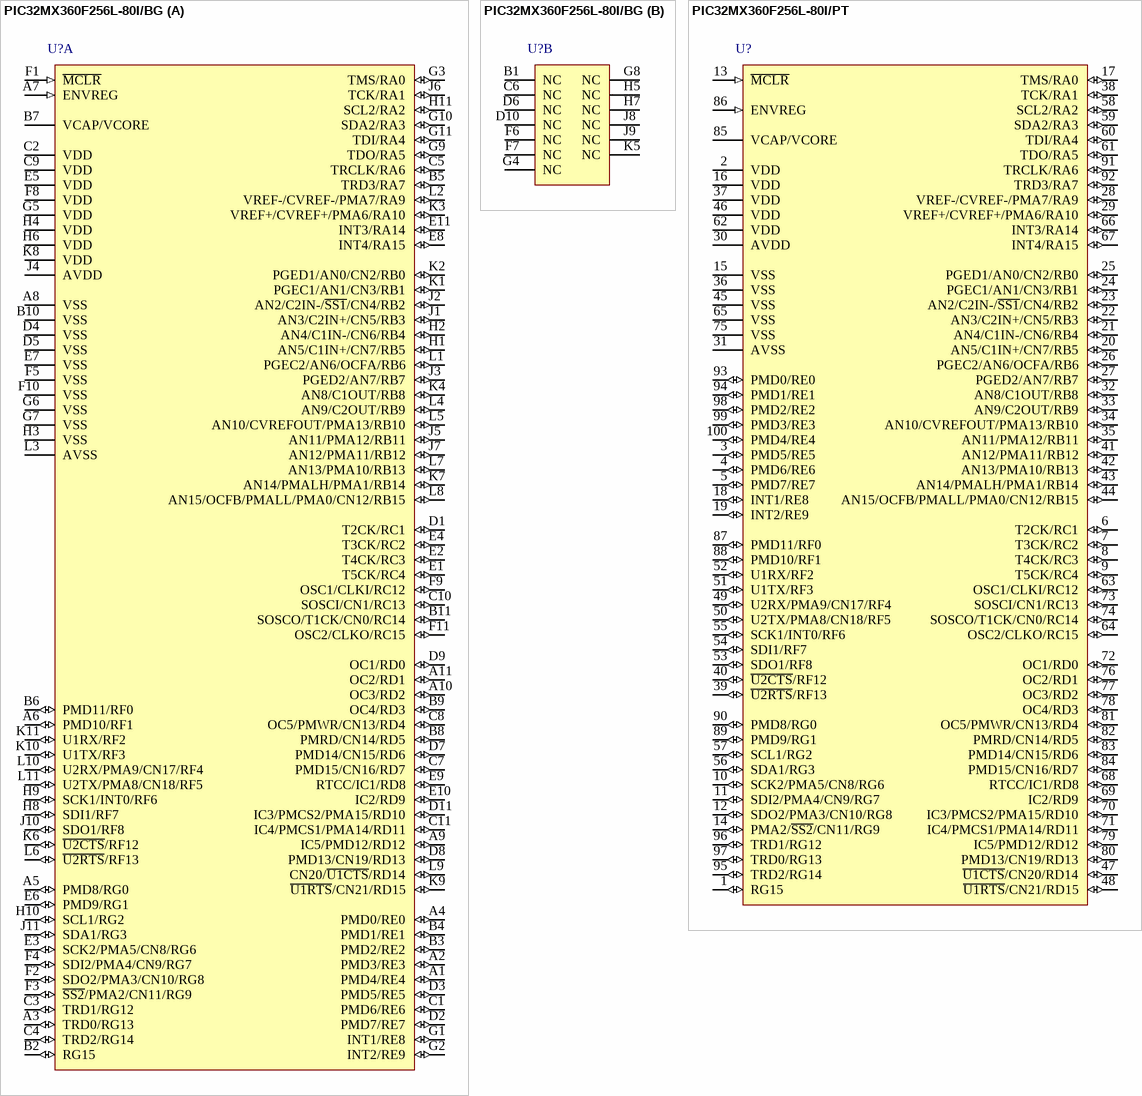
[diagram p44: symbols PIC32MX360F256L-80I/BG to PIC32MX360F256L-80I/PT]

## PIC32MX360F256L-80I/BG
designator U?
High Performance 80 MHz MIPS-Based 32-Bit Flash Microcontroller, 256KB Program Memory, 121-pin XBGA, Industrial Temperature; Manufacturer: Microchip; PartNumber: PIC32MX360F256L-80I/BG; DatasheetVersion: revH, May-2011; PackageVersion: revBB, Aug-2009; PackageReference: XBGA-BG121; PackageDescription: 121-Lead Plastic Thin Profile Ball Grid Array (BG) - 10x10x1.10 mm Body [XBGA]; Supplier 1: Digi-Key; Supplier Part Number 1: PIC32MX360F256L-80I/BG-ND; Mounting Technology: Surface Mount; ComponentLink1Description: Manufacturer URL; ComponentLink1URL: http://www.microchip.com/; ComponentLink2Description: Datasheet; ComponentLink2URL: http://ww1.microchip.com/downloads/en/DeviceDoc/61143H.pdf; ComponentLink3Description: Package Specification; ComponentLink3URL: http://ww1.microchip.com/downloads/en/PackagingSpec/en012702.pdf
footprint XBGA-BG121 (BGA, 121-Leads, Body 10x10mm, Pitch 0.8mm)
part A pins: A1 PMD4/RE4 (io), A2 PMD3/RE3 (io), A3 TRD0/RG13 (io), A4 PMD0/RE0 (io), A5 PMD8/RG0 (io), A6 PMD10/RF1 (io), A7 ENVREG (in), A8 VSS (power), A9 IC5/PMD12/RD12 (io), A10 OC3/RD2 (io), A11 OC2/RD1 (io), B2 RG15 (io), B3 PMD2/RE2 (io), B4 PMD1/RE1 (io), B5 TRD3/RA7 (io), B6 PMD11/RF0 (io), B7 VCAP/VCORE (power), B8 PMRD/CN14/RD5 (io), B9 OC4/RD3 (io), B10 VSS (power), B11 SOSCO/T1CK/CN0/RC14 (io), C1 PMD6/RE6 (io), C2 VDD (power), C3 TRD1/RG12 (io), C4 TRD2/RG14 (io), C5 TRCLK/RA6 (io), C7 PMD15/CN16/RD7 (io), C8 OC5/PMWR/CN13/RD4 (io), C9 VDD (power), C10 SOSCI/CN1/RC13 (io), C11 IC4/PMCS1/PMA14/RD11 (io), D1 T2CK/RC1 (io), D2 PMD7/RE7 (io), D3 PMD5/RE5 (io), D4 VSS (power), D5 VSS (power), D7 PMD14/CN15/RD6 (io), D8 PMD13/CN19/RD13 (io), D9 OC1/RD0 (io), D11 IC3/PMCS2/PMA15/RD10 (io), E1 T5CK/RC4 (io), E2 T4CK/RC3 (io), E3 SCK2/PMA5/CN8/RG6 (io), E4 T3CK/RC2 (io), E5 VDD (power), E6 PMD9/RG1 (io), E7 VSS (power), E8 INT4/RA15 (io), E9 RTCC/IC1/RD8 (io), E10 IC2/RD9 (io), E11 INT3/RA14 (io), F1 ~{MCLR} (in), F2 SDO2/PMA3/CN10/RG8 (io), F3 ~{SS2}/PMA2/CN11/RG9 (io), F4 SDI2/PMA4/CN9/RG7 (io), F5 VSS (power), F8 VDD (power), F9 OSC1/CLKI/RC12 (io), F10 VSS (power), F11 OSC2/CLKO/RC15 (io), G1 INT1/RE8 (io), G2 INT2/RE9 (io), G3 TMS/RA0 (io), G5 VDD (power), G6 VSS (power), G7 VSS (power), G9 TDO/RA5 (io), G10 SDA2/RA3 (io), G11 TDI/RA4 (io), H1 AN5/C1IN+/CN7/RB5 (io), H2 AN4/C1IN-/CN6/RB4 (io), H3 VSS (power), H4 VDD (power), H6 VDD (power), H8 SDI1/RF7 (io), H9 SCK1/INT0/RF6 (io), H10 SCL1/RG2 (io), H11 SCL2/RA2 (io), J1 AN3/C2IN+/CN5/RB3 (io), J2 AN2/C2IN-/~{SS1}/CN4/RB2 (io), J3 PGED2/AN7/RB7 (io), J4 AVDD (power), J5 AN11/PMA12/RB11 (io), J6 TCK/RA1 (io), J7 AN12/PMA11/RB12 (io), J10 SDO1/RF8 (io), J11 SDA1/RG3 (io), K1 PGEC1/AN1/CN3/RB1 (io), K2 PGED1/AN0/CN2/RB0 (io), K3 VREF+/CVREF+/PMA6/RA10 (io), K4 AN8/C1OUT/RB8 (io), K6 ~{U2CTS}/RF12 (io), K7 AN14/PMALH/PMA1/RB14 (io), K8 VDD (power), K9 ~{U1RTS}/CN21/RD15 (io), K10 U1TX/RF3 (io), K11 U1RX/RF2 (io), L1 PGEC2/AN6/OCFA/RB6 (io), L2 VREF-/CVREF-/PMA7/RA9 (io), L3 AVSS (power), L4 AN9/C2OUT/RB9 (io), L5 AN10/CVREFOUT/PMA13/RB10 (io), L6 ~{U2RTS}/RF13 (io), L7 AN13/PMA10/RB13 (io), L8 AN15/OCFB/PMALL/PMA0/CN12/RB15 (io), L9 CN20/~{U1CTS}/RD14 (io), L10 U2RX/PMA9/CN17/RF4 (io), L11 U2TX/PMA8/CN18/RF5 (io)
part B pins: B1 NC, C6 NC, D6 NC, D10 NC, F6 NC, F7 NC, G4 NC, G8 NC, H5 NC, H7 NC, J8 NC, J9 NC, K5 NC

## PIC32MX360F256L-80I/PT
designator U?
High Performance 80 MHz MIPS-Based 32-Bit Flash Microcontroller, 256KB Program Memory, 100-pin TQFP, Industrial Temperature; Manufacturer: Microchip; PartNumber: PIC32MX360F256L-80I/PT; DatasheetVersion: revH, May-2011; PackageVersion: revBB, Aug-2009; PackageReference: TQFP-PT100; PackageDescription: 100-Lead Plastic Thin Quad Flatpack (PT) - 12x12x1mm Body, 2.00mm [TQFP]; Supplier 1: Digi-Key; Supplier Part Number 1: PIC32MX360F256L-80I/PT-ND; Mounting Technology: Surface Mount; ComponentLink1Description: Manufacturer URL; ComponentLink1URL: http://www.microchip.com/; ComponentLink2Description: Datasheet; ComponentLink2URL: http://ww1.microchip.com/downloads/en/DeviceDoc/61143H.pdf; ComponentLink3Description: Package Specification; ComponentLink3URL: http://ww1.microchip.com/downloads/en/PackagingSpec/en012702.pdf
footprint TQFP-PT100_N (Thin QFP, 100-Leads, Body 12x12mm, Pitch 0.4mm, IPC Medium Density)
footprint TQFP-PT100_L (Thin QFP, 100-Leads, Body 12x12mm, Pitch 0.4mm, IPC High Density)
footprint TQFP-PT100_M (Thin QFP, 100-Leads, Body 12x12mm, Pitch 0.4mm, IPC Low Density)
pins: 1 RG15 (io), 2 VDD (power), 3 PMD5/RE5 (io), 4 PMD6/RE6 (io), 5 PMD7/RE7 (io), 6 T2CK/RC1 (io), 7 T3CK/RC2 (io), 8 T4CK/RC3 (io), 9 T5CK/RC4 (io), 10 SCK2/PMA5/CN8/RG6 (io), 11 SDI2/PMA4/CN9/RG7 (io), 12 SDO2/PMA3/CN10/RG8 (io), 13 ~{MCLR} (in), 14 PMA2/~{SS2}/CN11/RG9 (io), 15 VSS (power), 16 VDD (power), 17 TMS/RA0 (io), 18 INT1/RE8 (io), 19 INT2/RE9 (io), 20 AN5/C1IN+/CN7/RB5 (io), 21 AN4/C1IN-/CN6/RB4 (io), 22 AN3/C2IN+/CN5/RB3 (io), 23 AN2/C2IN-/~{SS1}/CN4/RB2 (io), 24 PGEC1/AN1/CN3/RB1 (io), 25 PGED1/AN0/CN2/RB0 (io), 26 PGEC2/AN6/OCFA/RB6 (io), 27 PGED2/AN7/RB7 (io), 28 VREF-/CVREF-/PMA7/RA9 (io), 29 VREF+/CVREF+/PMA6/RA10 (io), 30 AVDD (power), 31 AVSS (power), 32 AN8/C1OUT/RB8 (io), 33 AN9/C2OUT/RB9 (io), 34 AN10/CVREFOUT/PMA13/RB10 (io), 35 AN11/PMA12/RB11 (io), 36 VSS (power), 37 VDD (power), 38 TCK/RA1 (io), 39 ~{U2RTS}/RF13 (io), 40 ~{U2CTS}/RF12 (io), 41 AN12/PMA11/RB12 (io), 42 AN13/PMA10/RB13 (io), 43 AN14/PMALH/PMA1/RB14 (io), 44 AN15/OCFB/PMALL/PMA0/CN12/RB15 (io), 45 VSS (power), 46 VDD (power), 47 ~{U1CTS}/CN20/RD14 (io), 48 ~{U1RTS}/CN21/RD15 (io), 49 U2RX/PMA9/CN17/RF4 (io), 50 U2TX/PMA8/CN18/RF5 (io), 51 U1TX/RF3 (io), 52 U1RX/RF2 (io), 53 SDO1/RF8 (io), 54 SDI1/RF7 (io), 55 SCK1/INT0/RF6 (io), 56 SDA1/RG3 (io), 57 SCL1/RG2 (io), 58 SCL2/RA2 (io), 59 SDA2/RA3 (io), 60 TDI/RA4 (io), 61 TDO/RA5 (io), 62 VDD (power), 63 OSC1/CLKI/RC12 (io), 64 OSC2/CLKO/RC15 (io), 65 VSS (power), 66 INT3/RA14 (io), 67 INT4/RA15 (io), 68 RTCC/IC1/RD8 (io), 69 IC2/RD9 (io), 70 IC3/PMCS2/PMA15/RD10 (io), 71 IC4/PMCS1/PMA14/RD11 (io), 72 OC1/RD0 (io), 73 SOSCI/CN1/RC13 (io), 74 SOSCO/T1CK/CN0/RC14 (io), 75 VSS (power), 76 OC2/RD1 (io), 77 OC3/RD2 (io), 78 OC4/RD3 (io), 79 IC5/PMD12/RD12 (io), 80 PMD13/CN19/RD13 (io), 81 OC5/PMWR/CN13/RD4 (io), 82 PMRD/CN14/RD5 (io), 83 PMD14/CN15/RD6 (io), 84 PMD15/CN16/RD7 (io), 85 VCAP/VCORE (power), 86 ENVREG (in), 87 PMD11/RF0 (io), 88 PMD10/RF1 (io), 89 PMD9/RG1 (io), 90 PMD8/RG0 (io), 91 TRCLK/RA6 (io), 92 TRD3/RA7 (io), 93 PMD0/RE0 (io), 94 PMD1/RE1 (io), 95 TRD2/RG14 (io), 96 TRD1/RG12 (io), 97 TRD0/RG13 (io), 98 PMD2/RE2 (io), 99 PMD3/RE3 (io), 100 PMD4/RE4 (io)

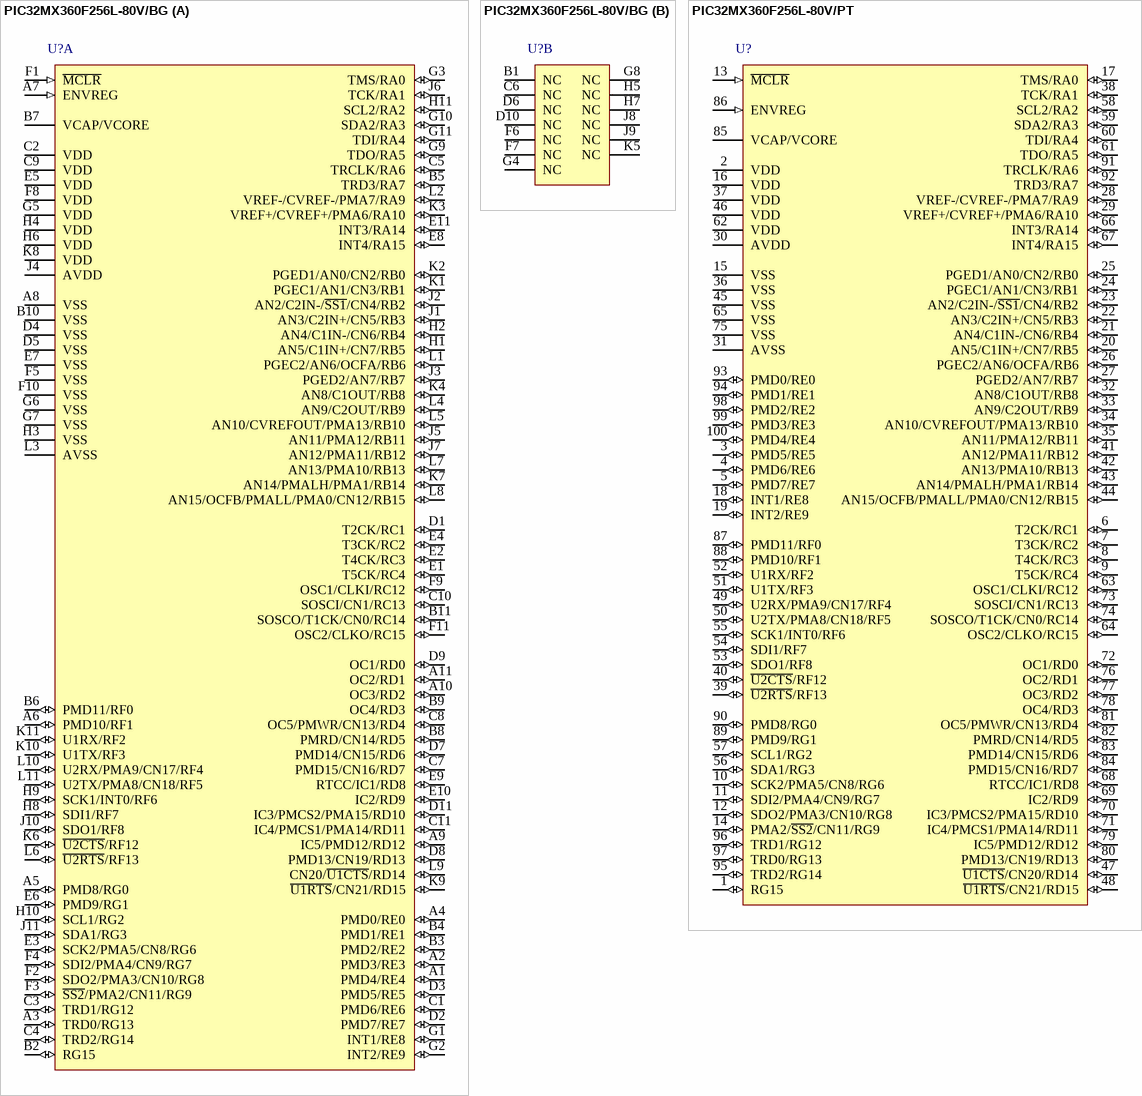
[diagram p45: symbols PIC32MX360F256L-80V/BG to PIC32MX360F256L-80V/PT]

## PIC32MX360F256L-80V/BG
designator U?
High Performance 80 MHz MIPS-Based 32-Bit Flash Microcontroller, 256KB Program Memory, 121-pin XBGA, V-Temperature; Manufacturer: Microchip; PartNumber: PIC32MX360F256L-80V/BG; DatasheetVersion: revH, May-2011; PackageVersion: revBB, Aug-2009; PackageReference: XBGA-BG121; PackageDescription: 121-Lead Plastic Thin Profile Ball Grid Array (BG) - 10x10x1.10 mm Body [XBGA]; Supplier 1: Digi-Key; Supplier Part Number 1: PIC32MX360F256L-80V/BG-ND; Mounting Technology: Surface Mount; ComponentLink1Description: Manufacturer URL; ComponentLink1URL: http://www.microchip.com/; ComponentLink2Description: Datasheet; ComponentLink2URL: http://ww1.microchip.com/downloads/en/DeviceDoc/61143H.pdf; ComponentLink3Description: Package Specification; ComponentLink3URL: http://ww1.microchip.com/downloads/en/PackagingSpec/en012702.pdf
footprint XBGA-BG121 (BGA, 121-Leads, Body 10x10mm, Pitch 0.8mm)
part A pins: A1 PMD4/RE4 (io), A2 PMD3/RE3 (io), A3 TRD0/RG13 (io), A4 PMD0/RE0 (io), A5 PMD8/RG0 (io), A6 PMD10/RF1 (io), A7 ENVREG (in), A8 VSS (power), A9 IC5/PMD12/RD12 (io), A10 OC3/RD2 (io), A11 OC2/RD1 (io), B2 RG15 (io), B3 PMD2/RE2 (io), B4 PMD1/RE1 (io), B5 TRD3/RA7 (io), B6 PMD11/RF0 (io), B7 VCAP/VCORE (power), B8 PMRD/CN14/RD5 (io), B9 OC4/RD3 (io), B10 VSS (power), B11 SOSCO/T1CK/CN0/RC14 (io), C1 PMD6/RE6 (io), C2 VDD (power), C3 TRD1/RG12 (io), C4 TRD2/RG14 (io), C5 TRCLK/RA6 (io), C7 PMD15/CN16/RD7 (io), C8 OC5/PMWR/CN13/RD4 (io), C9 VDD (power), C10 SOSCI/CN1/RC13 (io), C11 IC4/PMCS1/PMA14/RD11 (io), D1 T2CK/RC1 (io), D2 PMD7/RE7 (io), D3 PMD5/RE5 (io), D4 VSS (power), D5 VSS (power), D7 PMD14/CN15/RD6 (io), D8 PMD13/CN19/RD13 (io), D9 OC1/RD0 (io), D11 IC3/PMCS2/PMA15/RD10 (io), E1 T5CK/RC4 (io), E2 T4CK/RC3 (io), E3 SCK2/PMA5/CN8/RG6 (io), E4 T3CK/RC2 (io), E5 VDD (power), E6 PMD9/RG1 (io), E7 VSS (power), E8 INT4/RA15 (io), E9 RTCC/IC1/RD8 (io), E10 IC2/RD9 (io), E11 INT3/RA14 (io), F1 ~{MCLR} (in), F2 SDO2/PMA3/CN10/RG8 (io), F3 ~{SS2}/PMA2/CN11/RG9 (io), F4 SDI2/PMA4/CN9/RG7 (io), F5 VSS (power), F8 VDD (power), F9 OSC1/CLKI/RC12 (io), F10 VSS (power), F11 OSC2/CLKO/RC15 (io), G1 INT1/RE8 (io), G2 INT2/RE9 (io), G3 TMS/RA0 (io), G5 VDD (power), G6 VSS (power), G7 VSS (power), G9 TDO/RA5 (io), G10 SDA2/RA3 (io), G11 TDI/RA4 (io), H1 AN5/C1IN+/CN7/RB5 (io), H2 AN4/C1IN-/CN6/RB4 (io), H3 VSS (power), H4 VDD (power), H6 VDD (power), H8 SDI1/RF7 (io), H9 SCK1/INT0/RF6 (io), H10 SCL1/RG2 (io), H11 SCL2/RA2 (io), J1 AN3/C2IN+/CN5/RB3 (io), J2 AN2/C2IN-/~{SS1}/CN4/RB2 (io), J3 PGED2/AN7/RB7 (io), J4 AVDD (power), J5 AN11/PMA12/RB11 (io), J6 TCK/RA1 (io), J7 AN12/PMA11/RB12 (io), J10 SDO1/RF8 (io), J11 SDA1/RG3 (io), K1 PGEC1/AN1/CN3/RB1 (io), K2 PGED1/AN0/CN2/RB0 (io), K3 VREF+/CVREF+/PMA6/RA10 (io), K4 AN8/C1OUT/RB8 (io), K6 ~{U2CTS}/RF12 (io), K7 AN14/PMALH/PMA1/RB14 (io), K8 VDD (power), K9 ~{U1RTS}/CN21/RD15 (io), K10 U1TX/RF3 (io), K11 U1RX/RF2 (io), L1 PGEC2/AN6/OCFA/RB6 (io), L2 VREF-/CVREF-/PMA7/RA9 (io), L3 AVSS (power), L4 AN9/C2OUT/RB9 (io), L5 AN10/CVREFOUT/PMA13/RB10 (io), L6 ~{U2RTS}/RF13 (io), L7 AN13/PMA10/RB13 (io), L8 AN15/OCFB/PMALL/PMA0/CN12/RB15 (io), L9 CN20/~{U1CTS}/RD14 (io), L10 U2RX/PMA9/CN17/RF4 (io), L11 U2TX/PMA8/CN18/RF5 (io)
part B pins: B1 NC, C6 NC, D6 NC, D10 NC, F6 NC, F7 NC, G4 NC, G8 NC, H5 NC, H7 NC, J8 NC, J9 NC, K5 NC

## PIC32MX360F256L-80V/PT
designator U?
High Performance 80 MHz MIPS-Based 32-Bit Flash Microcontroller, 256KB Program Memory, 100-pin TQFP, V-Temperature; Manufacturer: Microchip; PartNumber: PIC32MX360F256L-80V/PT; DatasheetVersion: revH, May-2011; PackageVersion: revBB, Aug-2009; PackageReference: TQFP-PT100; PackageDescription: 100-Lead Plastic Thin Quad Flatpack (PT) - 12x12x1mm Body, 2.00mm [TQFP]; Supplier 1: Digi-Key; Supplier Part Number 1: PIC32MX360F256L-80V/PT-ND; Mounting Technology: Surface Mount; ComponentLink1Description: Manufacturer URL; ComponentLink1URL: http://www.microchip.com/; ComponentLink2Description: Datasheet; ComponentLink2URL: http://ww1.microchip.com/downloads/en/DeviceDoc/61143H.pdf; ComponentLink3Description: Package Specification; ComponentLink3URL: http://ww1.microchip.com/downloads/en/PackagingSpec/en012702.pdf
footprint TQFP-PT100_N (Thin QFP, 100-Leads, Body 12x12mm, Pitch 0.4mm, IPC Medium Density)
footprint TQFP-PT100_L (Thin QFP, 100-Leads, Body 12x12mm, Pitch 0.4mm, IPC High Density)
footprint TQFP-PT100_M (Thin QFP, 100-Leads, Body 12x12mm, Pitch 0.4mm, IPC Low Density)
pins: 1 RG15 (io), 2 VDD (power), 3 PMD5/RE5 (io), 4 PMD6/RE6 (io), 5 PMD7/RE7 (io), 6 T2CK/RC1 (io), 7 T3CK/RC2 (io), 8 T4CK/RC3 (io), 9 T5CK/RC4 (io), 10 SCK2/PMA5/CN8/RG6 (io), 11 SDI2/PMA4/CN9/RG7 (io), 12 SDO2/PMA3/CN10/RG8 (io), 13 ~{MCLR} (in), 14 PMA2/~{SS2}/CN11/RG9 (io), 15 VSS (power), 16 VDD (power), 17 TMS/RA0 (io), 18 INT1/RE8 (io), 19 INT2/RE9 (io), 20 AN5/C1IN+/CN7/RB5 (io), 21 AN4/C1IN-/CN6/RB4 (io), 22 AN3/C2IN+/CN5/RB3 (io), 23 AN2/C2IN-/~{SS1}/CN4/RB2 (io), 24 PGEC1/AN1/CN3/RB1 (io), 25 PGED1/AN0/CN2/RB0 (io), 26 PGEC2/AN6/OCFA/RB6 (io), 27 PGED2/AN7/RB7 (io), 28 VREF-/CVREF-/PMA7/RA9 (io), 29 VREF+/CVREF+/PMA6/RA10 (io), 30 AVDD (power), 31 AVSS (power), 32 AN8/C1OUT/RB8 (io), 33 AN9/C2OUT/RB9 (io), 34 AN10/CVREFOUT/PMA13/RB10 (io), 35 AN11/PMA12/RB11 (io), 36 VSS (power), 37 VDD (power), 38 TCK/RA1 (io), 39 ~{U2RTS}/RF13 (io), 40 ~{U2CTS}/RF12 (io), 41 AN12/PMA11/RB12 (io), 42 AN13/PMA10/RB13 (io), 43 AN14/PMALH/PMA1/RB14 (io), 44 AN15/OCFB/PMALL/PMA0/CN12/RB15 (io), 45 VSS (power), 46 VDD (power), 47 ~{U1CTS}/CN20/RD14 (io), 48 ~{U1RTS}/CN21/RD15 (io), 49 U2RX/PMA9/CN17/RF4 (io), 50 U2TX/PMA8/CN18/RF5 (io), 51 U1TX/RF3 (io), 52 U1RX/RF2 (io), 53 SDO1/RF8 (io), 54 SDI1/RF7 (io), 55 SCK1/INT0/RF6 (io), 56 SDA1/RG3 (io), 57 SCL1/RG2 (io), 58 SCL2/RA2 (io), 59 SDA2/RA3 (io), 60 TDI/RA4 (io), 61 TDO/RA5 (io), 62 VDD (power), 63 OSC1/CLKI/RC12 (io), 64 OSC2/CLKO/RC15 (io), 65 VSS (power), 66 INT3/RA14 (io), 67 INT4/RA15 (io), 68 RTCC/IC1/RD8 (io), 69 IC2/RD9 (io), 70 IC3/PMCS2/PMA15/RD10 (io), 71 IC4/PMCS1/PMA14/RD11 (io), 72 OC1/RD0 (io), 73 SOSCI/CN1/RC13 (io), 74 SOSCO/T1CK/CN0/RC14 (io), 75 VSS (power), 76 OC2/RD1 (io), 77 OC3/RD2 (io), 78 OC4/RD3 (io), 79 IC5/PMD12/RD12 (io), 80 PMD13/CN19/RD13 (io), 81 OC5/PMWR/CN13/RD4 (io), 82 PMRD/CN14/RD5 (io), 83 PMD14/CN15/RD6 (io), 84 PMD15/CN16/RD7 (io), 85 VCAP/VCORE (power), 86 ENVREG (in), 87 PMD11/RF0 (io), 88 PMD10/RF1 (io), 89 PMD9/RG1 (io), 90 PMD8/RG0 (io), 91 TRCLK/RA6 (io), 92 TRD3/RA7 (io), 93 PMD0/RE0 (io), 94 PMD1/RE1 (io), 95 TRD2/RG14 (io), 96 TRD1/RG12 (io), 97 TRD0/RG13 (io), 98 PMD2/RE2 (io), 99 PMD3/RE3 (io), 100 PMD4/RE4 (io)

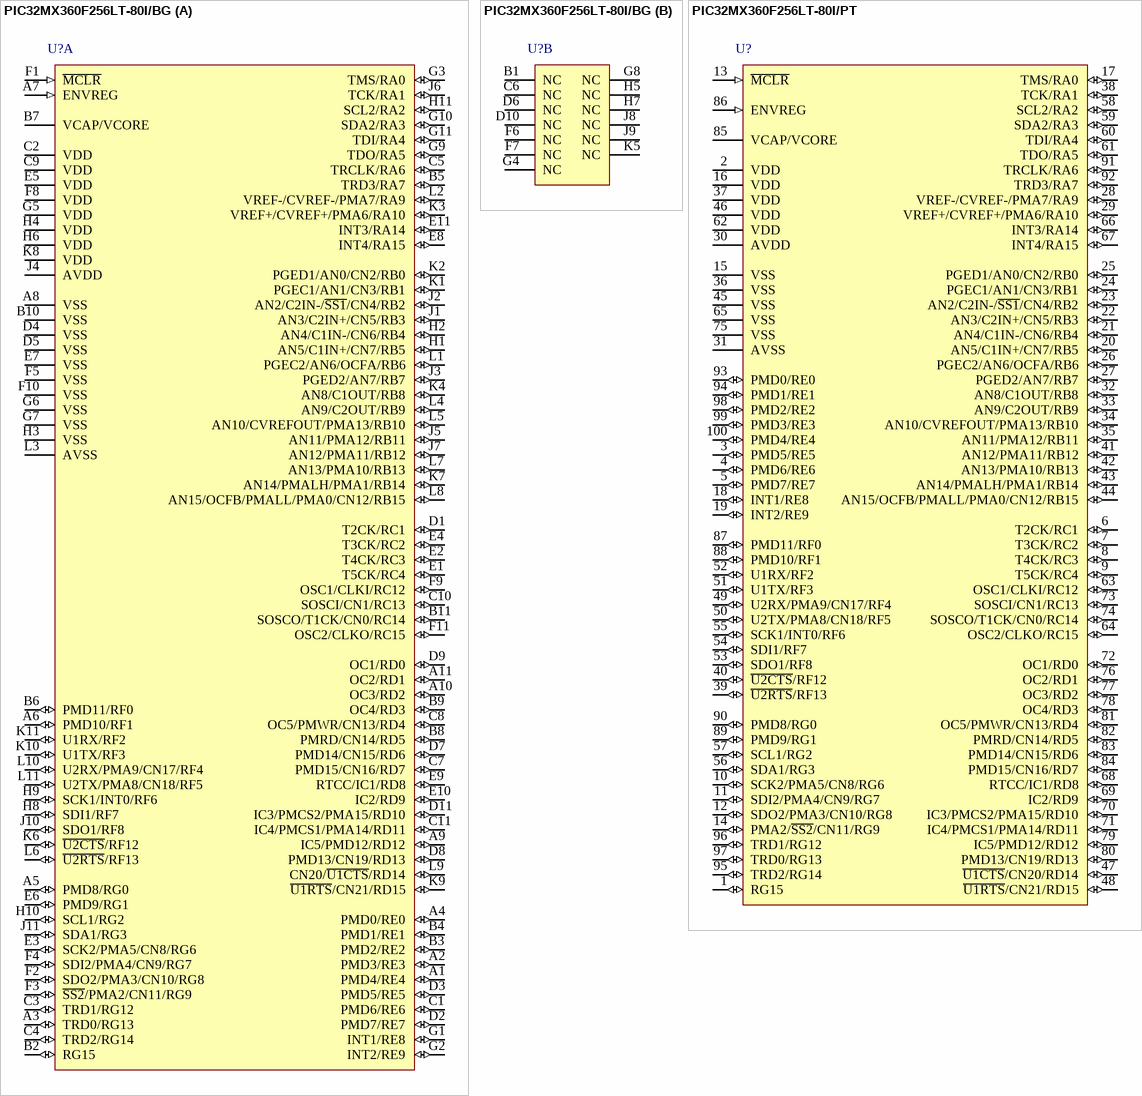
[diagram p46: symbols PIC32MX360F256LT-80I/BG to PIC32MX360F256LT-80I/PT]